# Altium integrated library Cypress PLD Ultra37000.IntLib: 166 symbols (part 10 of 12)
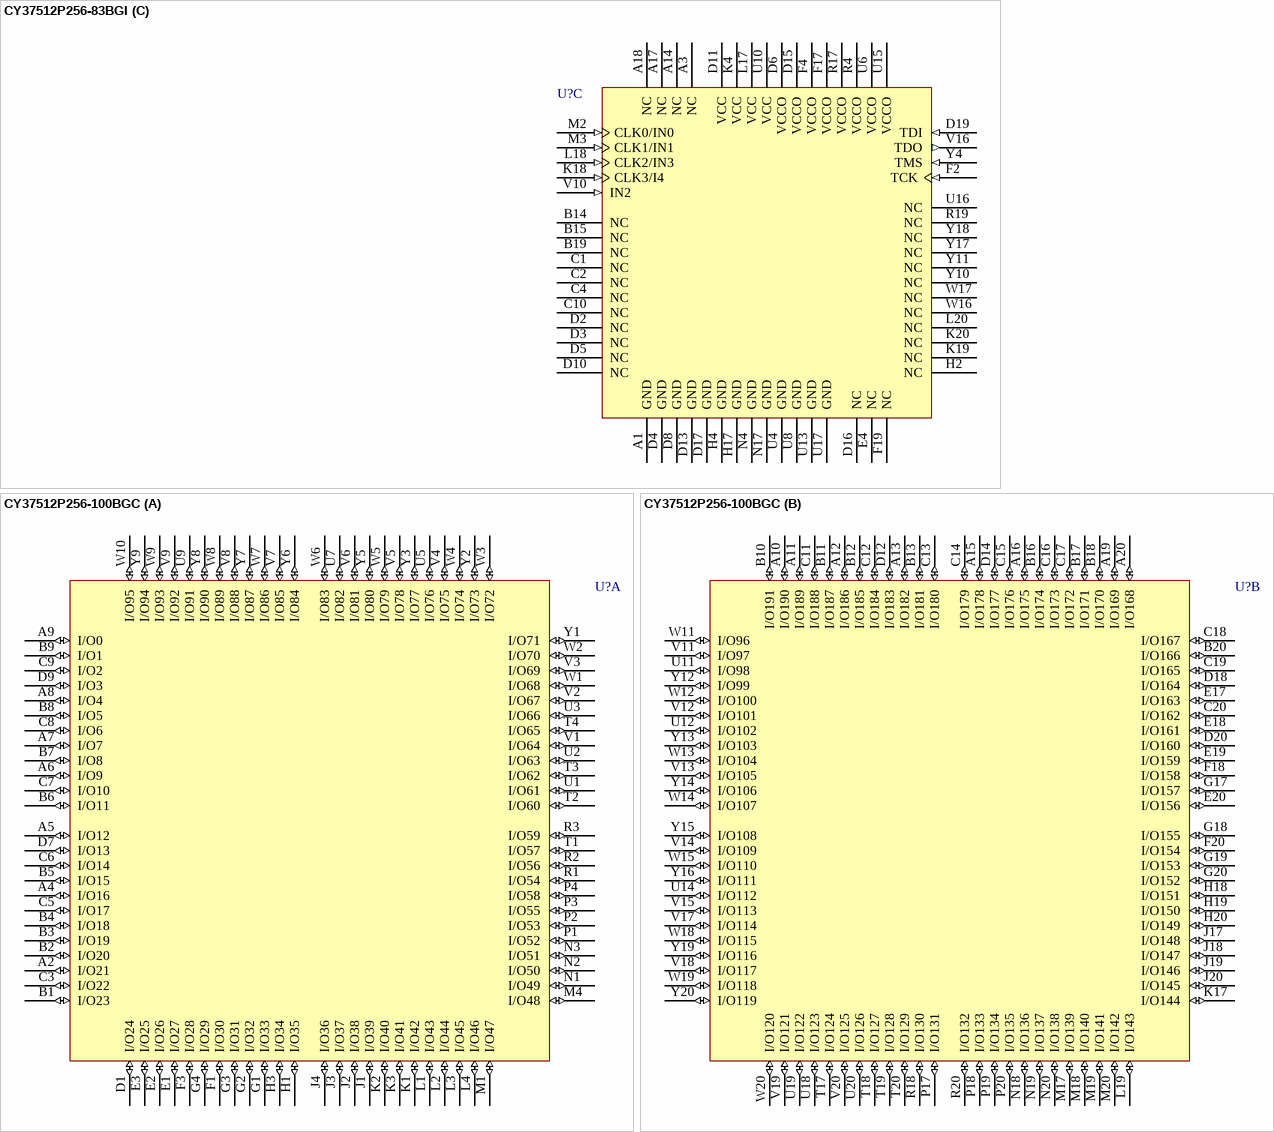
[diagram p99: symbols CY37512P256-83BGI to CY37512P256-100BGC]

## CY37512P256-83BGI
designator U?
Ultra37000 5V, ISR High-Performance CPLD; Published: 11-Dec-2002; LatestRevisionDate: 13-Apr-2006; LatestRevisionNote: IPC-7351 Footprint Added.; DatasheetVersion: 18-Apr-2001; PackageVersion: Mar-2001; PackageReference: BG256; Publisher: Altium Limited; PackageDescription: 292-Ball Ball Grid Array 1.27 mm Pitch; ComponentLink1Description: Manufacturer Link; ComponentLink1URL: http://www.cypress.com/; ComponentLink2Description: Datasheet; ComponentLink2URL: http://www.cypress.com/portal/server.pt/gateway/PTARGS_0_2_1524_209_259_43/http%3B/sjapp20.mis.cypress.com%3B7001/publishedcontent/publish/design_resources/datasheets/contents/cy37032p_5.pdf
footprint BG256 (BGA, 292-Leads, Body 27x27mm, Pitch 1.27mm)
3D model CY37512P256-BG256 (292-Ball Ball Grid Array 1.27 mm Pitch)
part A pins: A2 I/O21 (io), A4 I/O16 (io), A5 I/O12 (io), A6 I/O9 (io), A7 I/O7 (io), A8 I/O4 (io), A9 I/O0 (io), B1 I/O23 (io), B2 I/O20 (io), B3 I/O19 (io), B4 I/O18 (io), B5 I/O15 (io), B6 I/O11 (io), B7 I/O8 (io), B8 I/O5 (io), B9 I/O1 (io), C3 I/O22 (io), C5 I/O17 (io), C6 I/O14 (io), C7 I/O10 (io), C8 I/O6 (io), C9 I/O2 (io), D1 I/O24 (io), D7 I/O13 (io), D9 I/O3 (io), E1 I/O27 (io), E2 I/O26 (io), E3 I/O25 (io), F1 I/O30 (io), F3 I/O28 (io), G1 I/O33 (io), G2 I/O32 (io), G3 I/O31 (io), G4 I/O29 (io), H1 I/O35 (io), H3 I/O34 (io), J1 I/O39 (io), J2 I/O38 (io), J3 I/O37 (io), J4 I/O36 (io), K1 I/O42 (io), K2 I/O40 (io), K3 I/O41 (io), L1 I/O43 (io), L2 I/O44 (io), L3 I/O45 (io), L4 I/O46 (io), M1 I/O47 (io), M4 I/O48 (io), N1 I/O49 (io), N2 I/O50 (io), N3 I/O51 (io), P1 I/O52 (io), P2 I/O53 (io), P3 I/O55 (io), P4 I/O58 (io), R1 I/O54 (io), R2 I/O56 (io), R3 I/O59 (io), T1 I/O57 (io), T2 I/O60 (io), T3 I/O62 (io), T4 I/O65 (io), U1 I/O61 (io), U2 I/O63 (io), U3 I/O66 (io), U5 I/O76 (io), U7 I/O82 (io), U9 I/O91 (io), V1 I/O64 (io), V2 I/O67 (io), V3 I/O69 (io), V4 I/O75 (io), V5 I/O78 (io), V6 I/O81 (io), V7 I/O85 (io), V8 I/O88 (io), V9 I/O92 (io), W1 I/O68 (io), W2 I/O70 (io), W3 I/O72 (io), W4 I/O74 (io), W5 I/O79 (io), W6 I/O83 (io), W7 I/O86 (io), W8 I/O89 (io), W9 I/O93 (io), W10 I/O95 (io), Y1 I/O71 (io), Y2 I/O73 (io), Y3 I/O77 (io), Y5 I/O80 (io), Y6 I/O84 (io), Y7 I/O87 (io), Y8 I/O90 (io), Y9 I/O94 (io)
part B pins: A10 I/O190 (io), A11 I/O189 (io), A12 I/O186 (io), A13 I/O182 (io), A15 I/O178 (io), A16 I/O175 (io), A19 I/O169 (io), A20 I/O168 (io), B10 I/O191 (io), B11 I/O187 (io), B12 I/O185 (io), B13 I/O181 (io), B16 I/O174 (io), B17 I/O171 (io), B18 I/O170 (io), B20 I/O166 (io), C11 I/O188 (io), C12 I/O184 (io), C13 I/O180 (io), C14 I/O179 (io), C15 I/O176 (io), C16 I/O173 (io), C17 I/O172 (io), C18 I/O167 (io), C19 I/O165 (io), C20 I/O162 (io), D12 I/O183 (io), D14 I/O177 (io), D18 I/O164 (io), D20 I/O160 (io), E17 I/O163 (io), E18 I/O161 (io), E19 I/O159 (io), E20 I/O156 (io), F18 I/O158 (io), F20 I/O154 (io), G17 I/O157 (io), G18 I/O155 (io), G19 I/O153 (io), G20 I/O152 (io), H18 I/O151 (io), H19 I/O150 (io), H20 I/O149 (io), J17 I/O148 (io), J18 I/O147 (io), J19 I/O146 (io), J20 I/O145 (io), K17 I/O144 (io), L19 I/O143 (io), M17 I/O139 (io), M18 I/O140 (io), M19 I/O141 (io), M20 I/O142 (io), N18 I/O136 (io), N19 I/O137 (io), N20 I/O138 (io), P17 I/O131 (io), P18 I/O133 (io), P19 I/O134 (io), P20 I/O135 (io), R18 I/O130 (io), R20 I/O132 (io), T17 I/O124 (io), T18 I/O127 (io), T19 I/O128 (io), T20 I/O129 (io), U11 I/O98 (io), U12 I/O102 (io), U14 I/O112 (io), U18 I/O123 (io), U19 I/O122 (io), U20 I/O126 (io), V11 I/O97 (io), V12 I/O101 (io), V13 I/O105 (io), V14 I/O109 (io), V15 I/O113 (io), V17 I/O114 (io), V18 I/O117 (io), V19 I/O121 (io), V20 I/O125 (io), W11 I/O96 (io), W12 I/O100 (io), W13 I/O104 (io), W14 I/O107 (io), W15 I/O110 (io), W18 I/O115 (io), W19 I/O118 (io), W20 I/O120 (io), Y12 I/O99 (io), Y13 I/O103 (io), Y14 I/O106 (io), Y15 I/O108 (io), Y16 I/O111 (io), Y19 I/O116 (io), Y20 I/O119 (io)
part C pins: A1 GND (power), A3 NC, A14 NC, A17 NC, A18 NC, B14 NC, B15 NC, B19 NC, C1 NC, C2 NC, C4 NC, C10 NC, D2 NC, D3 NC, D4 GND (power), D5 NC, D6 VCCO (power), D8 GND (power), D10 NC, D11 VCC (power), D13 GND (power), D15 VCCO (power), D16 NC, D17 GND (power), D19 TDI (in), E4 NC, F2 TCK (in), F4 VCCO (power), F17 VCCO (power), F19 NC, H2 NC, H4 GND (power), H17 GND (power), K4 VCC (power), K18 CLK3/I4 (in), K19 NC, K20 NC, L17 VCC (power), L18 CLK2/IN3 (in), L20 NC, M2 CLK0/IN0 (in), M3 CLK1/IN1 (in), N4 GND (power), N17 GND (power), R4 VCCO (power), R17 VCCO (power), R19 NC, U4 GND (power), U6 VCCO (power), U8 GND (power), U10 VCC (power), U13 GND (power), U15 VCCO (power), U16 NC, U17 GND (power), V10 IN2 (in), V16 TDO (out), W16 NC, W17 NC, Y4 TMS (in), Y10 NC, Y11 NC, Y17 NC, Y18 NC

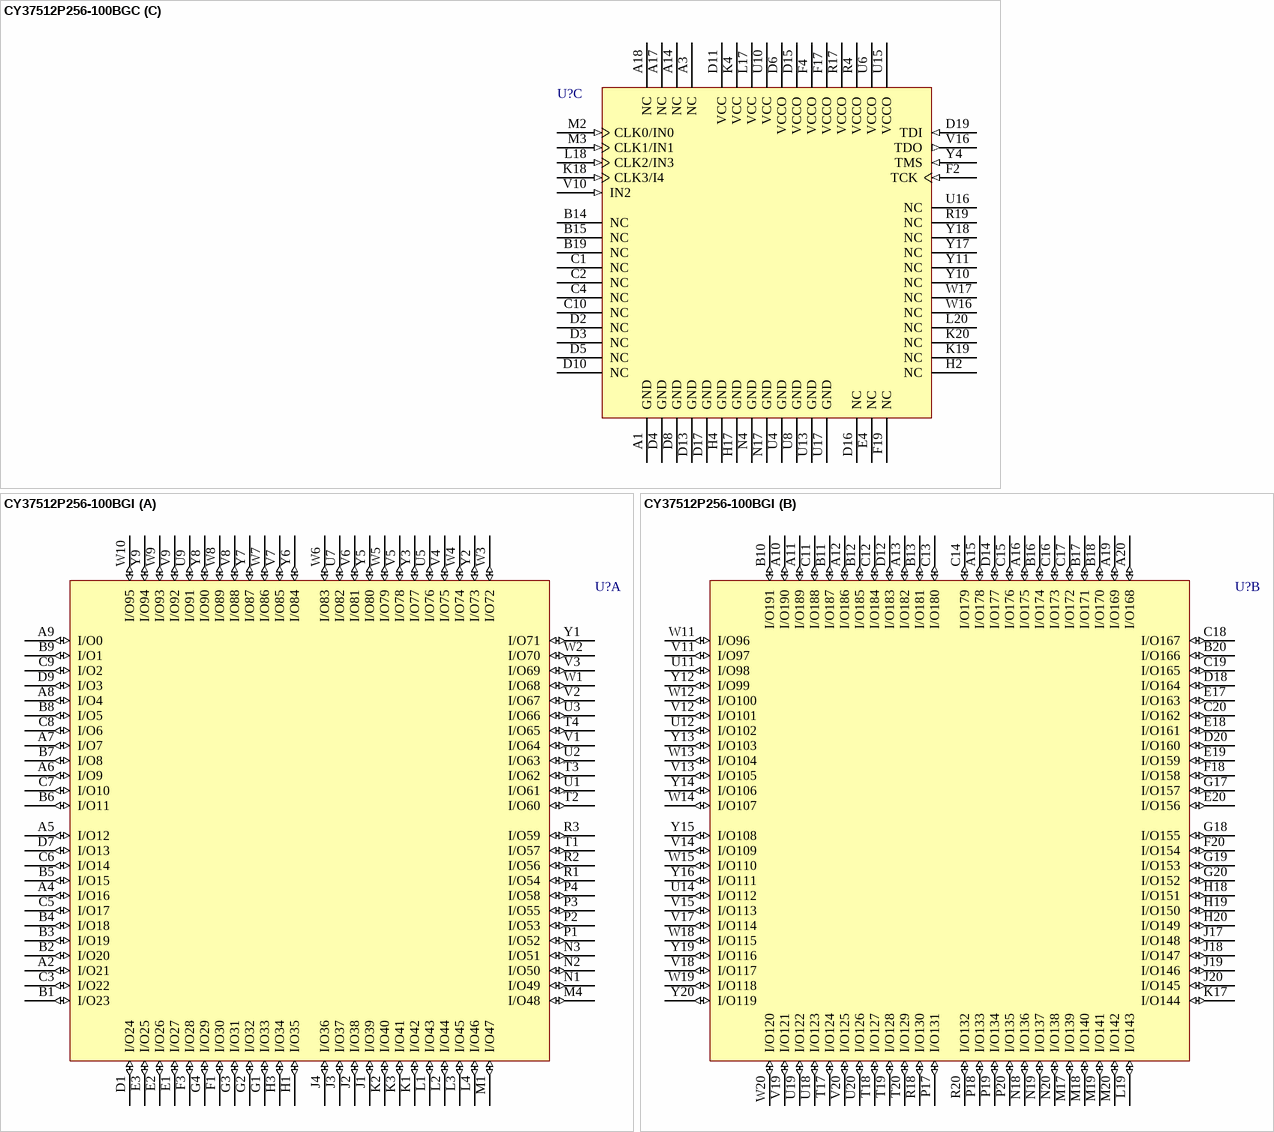
[diagram p62: symbols CY37512P256-100BGC to CY37512P256-100BGI]

## CY37512P256-100BGC
designator U?
Ultra37000 5V, ISR High-Performance CPLD; Published: 11-Dec-2002; LatestRevisionDate: 13-Apr-2006; LatestRevisionNote: IPC-7351 Footprint Added.; DatasheetVersion: 18-Apr-2001; PackageVersion: Mar-2001; PackageReference: BG256; Publisher: Altium Limited; PackageDescription: 292-Ball Ball Grid Array 1.27 mm Pitch; ComponentLink1Description: Manufacturer Link; ComponentLink1URL: http://www.cypress.com/; ComponentLink2Description: Datasheet; ComponentLink2URL: http://www.cypress.com/portal/server.pt/gateway/PTARGS_0_2_1524_209_259_43/http%3B/sjapp20.mis.cypress.com%3B7001/publishedcontent/publish/design_resources/datasheets/contents/cy37032p_5.pdf
footprint BG256 (BGA, 292-Leads, Body 27x27mm, Pitch 1.27mm)
3D model CY37512P256-BG256 (292-Ball Ball Grid Array 1.27 mm Pitch)
part A pins: A2 I/O21 (io), A4 I/O16 (io), A5 I/O12 (io), A6 I/O9 (io), A7 I/O7 (io), A8 I/O4 (io), A9 I/O0 (io), B1 I/O23 (io), B2 I/O20 (io), B3 I/O19 (io), B4 I/O18 (io), B5 I/O15 (io), B6 I/O11 (io), B7 I/O8 (io), B8 I/O5 (io), B9 I/O1 (io), C3 I/O22 (io), C5 I/O17 (io), C6 I/O14 (io), C7 I/O10 (io), C8 I/O6 (io), C9 I/O2 (io), D1 I/O24 (io), D7 I/O13 (io), D9 I/O3 (io), E1 I/O27 (io), E2 I/O26 (io), E3 I/O25 (io), F1 I/O30 (io), F3 I/O28 (io), G1 I/O33 (io), G2 I/O32 (io), G3 I/O31 (io), G4 I/O29 (io), H1 I/O35 (io), H3 I/O34 (io), J1 I/O39 (io), J2 I/O38 (io), J3 I/O37 (io), J4 I/O36 (io), K1 I/O42 (io), K2 I/O40 (io), K3 I/O41 (io), L1 I/O43 (io), L2 I/O44 (io), L3 I/O45 (io), L4 I/O46 (io), M1 I/O47 (io), M4 I/O48 (io), N1 I/O49 (io), N2 I/O50 (io), N3 I/O51 (io), P1 I/O52 (io), P2 I/O53 (io), P3 I/O55 (io), P4 I/O58 (io), R1 I/O54 (io), R2 I/O56 (io), R3 I/O59 (io), T1 I/O57 (io), T2 I/O60 (io), T3 I/O62 (io), T4 I/O65 (io), U1 I/O61 (io), U2 I/O63 (io), U3 I/O66 (io), U5 I/O76 (io), U7 I/O82 (io), U9 I/O91 (io), V1 I/O64 (io), V2 I/O67 (io), V3 I/O69 (io), V4 I/O75 (io), V5 I/O78 (io), V6 I/O81 (io), V7 I/O85 (io), V8 I/O88 (io), V9 I/O92 (io), W1 I/O68 (io), W2 I/O70 (io), W3 I/O72 (io), W4 I/O74 (io), W5 I/O79 (io), W6 I/O83 (io), W7 I/O86 (io), W8 I/O89 (io), W9 I/O93 (io), W10 I/O95 (io), Y1 I/O71 (io), Y2 I/O73 (io), Y3 I/O77 (io), Y5 I/O80 (io), Y6 I/O84 (io), Y7 I/O87 (io), Y8 I/O90 (io), Y9 I/O94 (io)
part B pins: A10 I/O190 (io), A11 I/O189 (io), A12 I/O186 (io), A13 I/O182 (io), A15 I/O178 (io), A16 I/O175 (io), A19 I/O169 (io), A20 I/O168 (io), B10 I/O191 (io), B11 I/O187 (io), B12 I/O185 (io), B13 I/O181 (io), B16 I/O174 (io), B17 I/O171 (io), B18 I/O170 (io), B20 I/O166 (io), C11 I/O188 (io), C12 I/O184 (io), C13 I/O180 (io), C14 I/O179 (io), C15 I/O176 (io), C16 I/O173 (io), C17 I/O172 (io), C18 I/O167 (io), C19 I/O165 (io), C20 I/O162 (io), D12 I/O183 (io), D14 I/O177 (io), D18 I/O164 (io), D20 I/O160 (io), E17 I/O163 (io), E18 I/O161 (io), E19 I/O159 (io), E20 I/O156 (io), F18 I/O158 (io), F20 I/O154 (io), G17 I/O157 (io), G18 I/O155 (io), G19 I/O153 (io), G20 I/O152 (io), H18 I/O151 (io), H19 I/O150 (io), H20 I/O149 (io), J17 I/O148 (io), J18 I/O147 (io), J19 I/O146 (io), J20 I/O145 (io), K17 I/O144 (io), L19 I/O143 (io), M17 I/O139 (io), M18 I/O140 (io), M19 I/O141 (io), M20 I/O142 (io), N18 I/O136 (io), N19 I/O137 (io), N20 I/O138 (io), P17 I/O131 (io), P18 I/O133 (io), P19 I/O134 (io), P20 I/O135 (io), R18 I/O130 (io), R20 I/O132 (io), T17 I/O124 (io), T18 I/O127 (io), T19 I/O128 (io), T20 I/O129 (io), U11 I/O98 (io), U12 I/O102 (io), U14 I/O112 (io), U18 I/O123 (io), U19 I/O122 (io), U20 I/O126 (io), V11 I/O97 (io), V12 I/O101 (io), V13 I/O105 (io), V14 I/O109 (io), V15 I/O113 (io), V17 I/O114 (io), V18 I/O117 (io), V19 I/O121 (io), V20 I/O125 (io), W11 I/O96 (io), W12 I/O100 (io), W13 I/O104 (io), W14 I/O107 (io), W15 I/O110 (io), W18 I/O115 (io), W19 I/O118 (io), W20 I/O120 (io), Y12 I/O99 (io), Y13 I/O103 (io), Y14 I/O106 (io), Y15 I/O108 (io), Y16 I/O111 (io), Y19 I/O116 (io), Y20 I/O119 (io)
part C pins: A1 GND (power), A3 NC, A14 NC, A17 NC, A18 NC, B14 NC, B15 NC, B19 NC, C1 NC, C2 NC, C4 NC, C10 NC, D2 NC, D3 NC, D4 GND (power), D5 NC, D6 VCCO (power), D8 GND (power), D10 NC, D11 VCC (power), D13 GND (power), D15 VCCO (power), D16 NC, D17 GND (power), D19 TDI (in), E4 NC, F2 TCK (in), F4 VCCO (power), F17 VCCO (power), F19 NC, H2 NC, H4 GND (power), H17 GND (power), K4 VCC (power), K18 CLK3/I4 (in), K19 NC, K20 NC, L17 VCC (power), L18 CLK2/IN3 (in), L20 NC, M2 CLK0/IN0 (in), M3 CLK1/IN1 (in), N4 GND (power), N17 GND (power), R4 VCCO (power), R17 VCCO (power), R19 NC, U4 GND (power), U6 VCCO (power), U8 GND (power), U10 VCC (power), U13 GND (power), U15 VCCO (power), U16 NC, U17 GND (power), V10 IN2 (in), V16 TDO (out), W16 NC, W17 NC, Y4 TMS (in), Y10 NC, Y11 NC, Y17 NC, Y18 NC

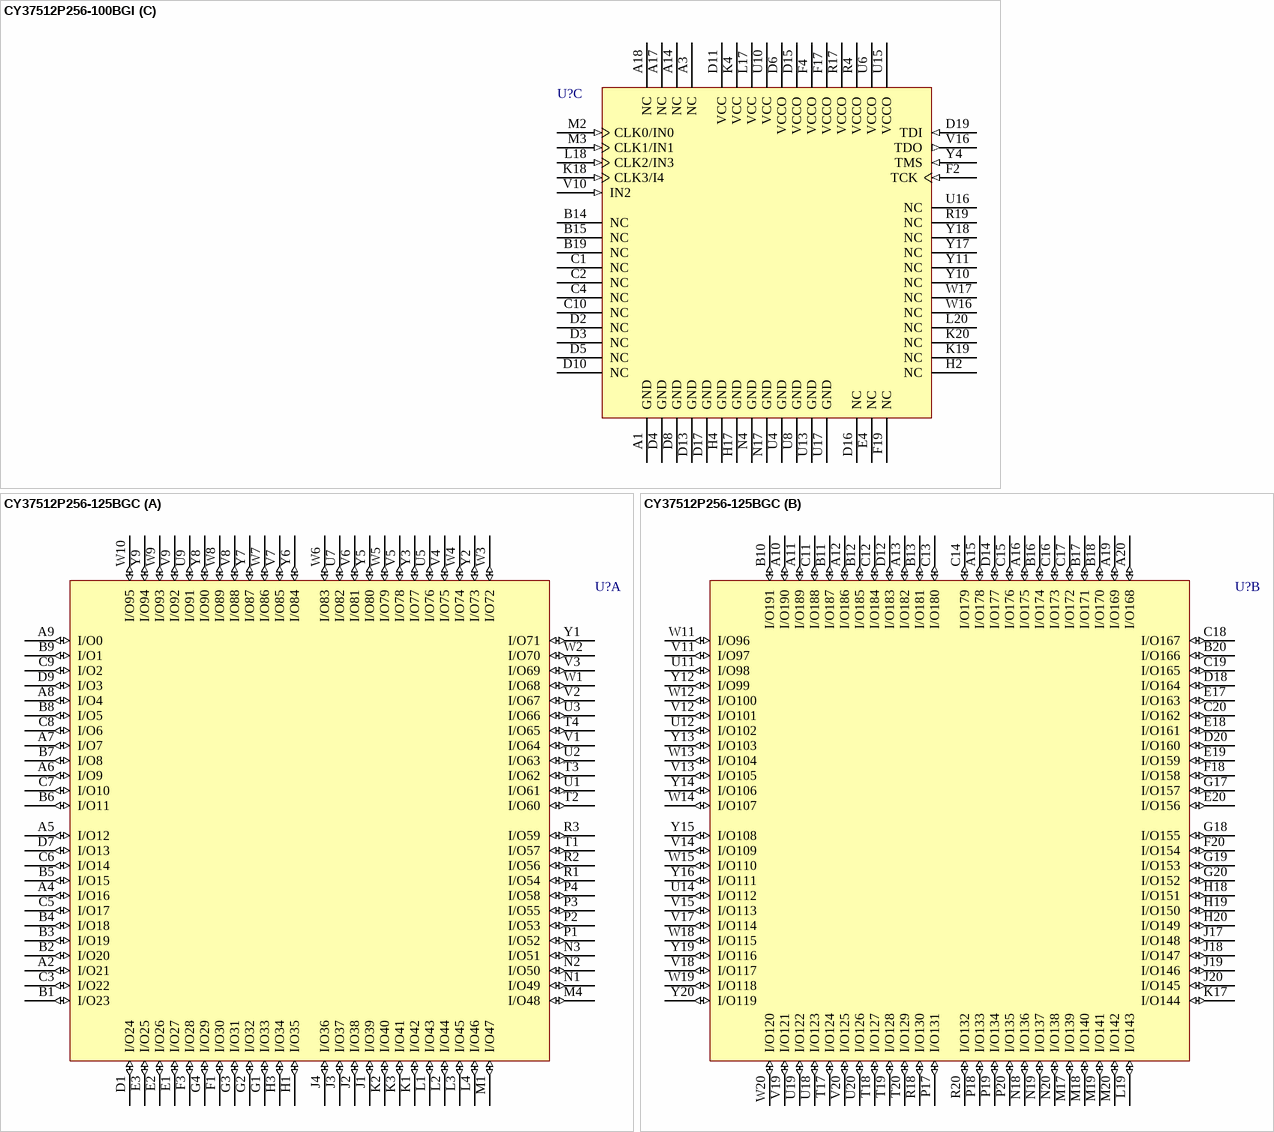
[diagram p63: symbols CY37512P256-100BGI to CY37512P256-125BGC]

## CY37512P256-100BGI
designator U?
Ultra37000 5V, ISR High-Performance CPLD; Published: 11-Dec-2002; LatestRevisionDate: 13-Apr-2006; LatestRevisionNote: IPC-7351 Footprint Added.; DatasheetVersion: 18-Apr-2001; PackageVersion: Mar-2001; PackageReference: BG256; Publisher: Altium Limited; PackageDescription: 292-Ball Ball Grid Array 1.27 mm Pitch; ComponentLink1Description: Manufacturer Link; ComponentLink1URL: http://www.cypress.com/; ComponentLink2Description: Datasheet; ComponentLink2URL: http://www.cypress.com/portal/server.pt/gateway/PTARGS_0_2_1524_209_259_43/http%3B/sjapp20.mis.cypress.com%3B7001/publishedcontent/publish/design_resources/datasheets/contents/cy37032p_5.pdf
footprint BG256 (BGA, 292-Leads, Body 27x27mm, Pitch 1.27mm)
3D model CY37512P256-BG256 (292-Ball Ball Grid Array 1.27 mm Pitch)
part A pins: A2 I/O21 (io), A4 I/O16 (io), A5 I/O12 (io), A6 I/O9 (io), A7 I/O7 (io), A8 I/O4 (io), A9 I/O0 (io), B1 I/O23 (io), B2 I/O20 (io), B3 I/O19 (io), B4 I/O18 (io), B5 I/O15 (io), B6 I/O11 (io), B7 I/O8 (io), B8 I/O5 (io), B9 I/O1 (io), C3 I/O22 (io), C5 I/O17 (io), C6 I/O14 (io), C7 I/O10 (io), C8 I/O6 (io), C9 I/O2 (io), D1 I/O24 (io), D7 I/O13 (io), D9 I/O3 (io), E1 I/O27 (io), E2 I/O26 (io), E3 I/O25 (io), F1 I/O30 (io), F3 I/O28 (io), G1 I/O33 (io), G2 I/O32 (io), G3 I/O31 (io), G4 I/O29 (io), H1 I/O35 (io), H3 I/O34 (io), J1 I/O39 (io), J2 I/O38 (io), J3 I/O37 (io), J4 I/O36 (io), K1 I/O42 (io), K2 I/O40 (io), K3 I/O41 (io), L1 I/O43 (io), L2 I/O44 (io), L3 I/O45 (io), L4 I/O46 (io), M1 I/O47 (io), M4 I/O48 (io), N1 I/O49 (io), N2 I/O50 (io), N3 I/O51 (io), P1 I/O52 (io), P2 I/O53 (io), P3 I/O55 (io), P4 I/O58 (io), R1 I/O54 (io), R2 I/O56 (io), R3 I/O59 (io), T1 I/O57 (io), T2 I/O60 (io), T3 I/O62 (io), T4 I/O65 (io), U1 I/O61 (io), U2 I/O63 (io), U3 I/O66 (io), U5 I/O76 (io), U7 I/O82 (io), U9 I/O91 (io), V1 I/O64 (io), V2 I/O67 (io), V3 I/O69 (io), V4 I/O75 (io), V5 I/O78 (io), V6 I/O81 (io), V7 I/O85 (io), V8 I/O88 (io), V9 I/O92 (io), W1 I/O68 (io), W2 I/O70 (io), W3 I/O72 (io), W4 I/O74 (io), W5 I/O79 (io), W6 I/O83 (io), W7 I/O86 (io), W8 I/O89 (io), W9 I/O93 (io), W10 I/O95 (io), Y1 I/O71 (io), Y2 I/O73 (io), Y3 I/O77 (io), Y5 I/O80 (io), Y6 I/O84 (io), Y7 I/O87 (io), Y8 I/O90 (io), Y9 I/O94 (io)
part B pins: A10 I/O190 (io), A11 I/O189 (io), A12 I/O186 (io), A13 I/O182 (io), A15 I/O178 (io), A16 I/O175 (io), A19 I/O169 (io), A20 I/O168 (io), B10 I/O191 (io), B11 I/O187 (io), B12 I/O185 (io), B13 I/O181 (io), B16 I/O174 (io), B17 I/O171 (io), B18 I/O170 (io), B20 I/O166 (io), C11 I/O188 (io), C12 I/O184 (io), C13 I/O180 (io), C14 I/O179 (io), C15 I/O176 (io), C16 I/O173 (io), C17 I/O172 (io), C18 I/O167 (io), C19 I/O165 (io), C20 I/O162 (io), D12 I/O183 (io), D14 I/O177 (io), D18 I/O164 (io), D20 I/O160 (io), E17 I/O163 (io), E18 I/O161 (io), E19 I/O159 (io), E20 I/O156 (io), F18 I/O158 (io), F20 I/O154 (io), G17 I/O157 (io), G18 I/O155 (io), G19 I/O153 (io), G20 I/O152 (io), H18 I/O151 (io), H19 I/O150 (io), H20 I/O149 (io), J17 I/O148 (io), J18 I/O147 (io), J19 I/O146 (io), J20 I/O145 (io), K17 I/O144 (io), L19 I/O143 (io), M17 I/O139 (io), M18 I/O140 (io), M19 I/O141 (io), M20 I/O142 (io), N18 I/O136 (io), N19 I/O137 (io), N20 I/O138 (io), P17 I/O131 (io), P18 I/O133 (io), P19 I/O134 (io), P20 I/O135 (io), R18 I/O130 (io), R20 I/O132 (io), T17 I/O124 (io), T18 I/O127 (io), T19 I/O128 (io), T20 I/O129 (io), U11 I/O98 (io), U12 I/O102 (io), U14 I/O112 (io), U18 I/O123 (io), U19 I/O122 (io), U20 I/O126 (io), V11 I/O97 (io), V12 I/O101 (io), V13 I/O105 (io), V14 I/O109 (io), V15 I/O113 (io), V17 I/O114 (io), V18 I/O117 (io), V19 I/O121 (io), V20 I/O125 (io), W11 I/O96 (io), W12 I/O100 (io), W13 I/O104 (io), W14 I/O107 (io), W15 I/O110 (io), W18 I/O115 (io), W19 I/O118 (io), W20 I/O120 (io), Y12 I/O99 (io), Y13 I/O103 (io), Y14 I/O106 (io), Y15 I/O108 (io), Y16 I/O111 (io), Y19 I/O116 (io), Y20 I/O119 (io)
part C pins: A1 GND (power), A3 NC, A14 NC, A17 NC, A18 NC, B14 NC, B15 NC, B19 NC, C1 NC, C2 NC, C4 NC, C10 NC, D2 NC, D3 NC, D4 GND (power), D5 NC, D6 VCCO (power), D8 GND (power), D10 NC, D11 VCC (power), D13 GND (power), D15 VCCO (power), D16 NC, D17 GND (power), D19 TDI (in), E4 NC, F2 TCK (in), F4 VCCO (power), F17 VCCO (power), F19 NC, H2 NC, H4 GND (power), H17 GND (power), K4 VCC (power), K18 CLK3/I4 (in), K19 NC, K20 NC, L17 VCC (power), L18 CLK2/IN3 (in), L20 NC, M2 CLK0/IN0 (in), M3 CLK1/IN1 (in), N4 GND (power), N17 GND (power), R4 VCCO (power), R17 VCCO (power), R19 NC, U4 GND (power), U6 VCCO (power), U8 GND (power), U10 VCC (power), U13 GND (power), U15 VCCO (power), U16 NC, U17 GND (power), V10 IN2 (in), V16 TDO (out), W16 NC, W17 NC, Y4 TMS (in), Y10 NC, Y11 NC, Y17 NC, Y18 NC

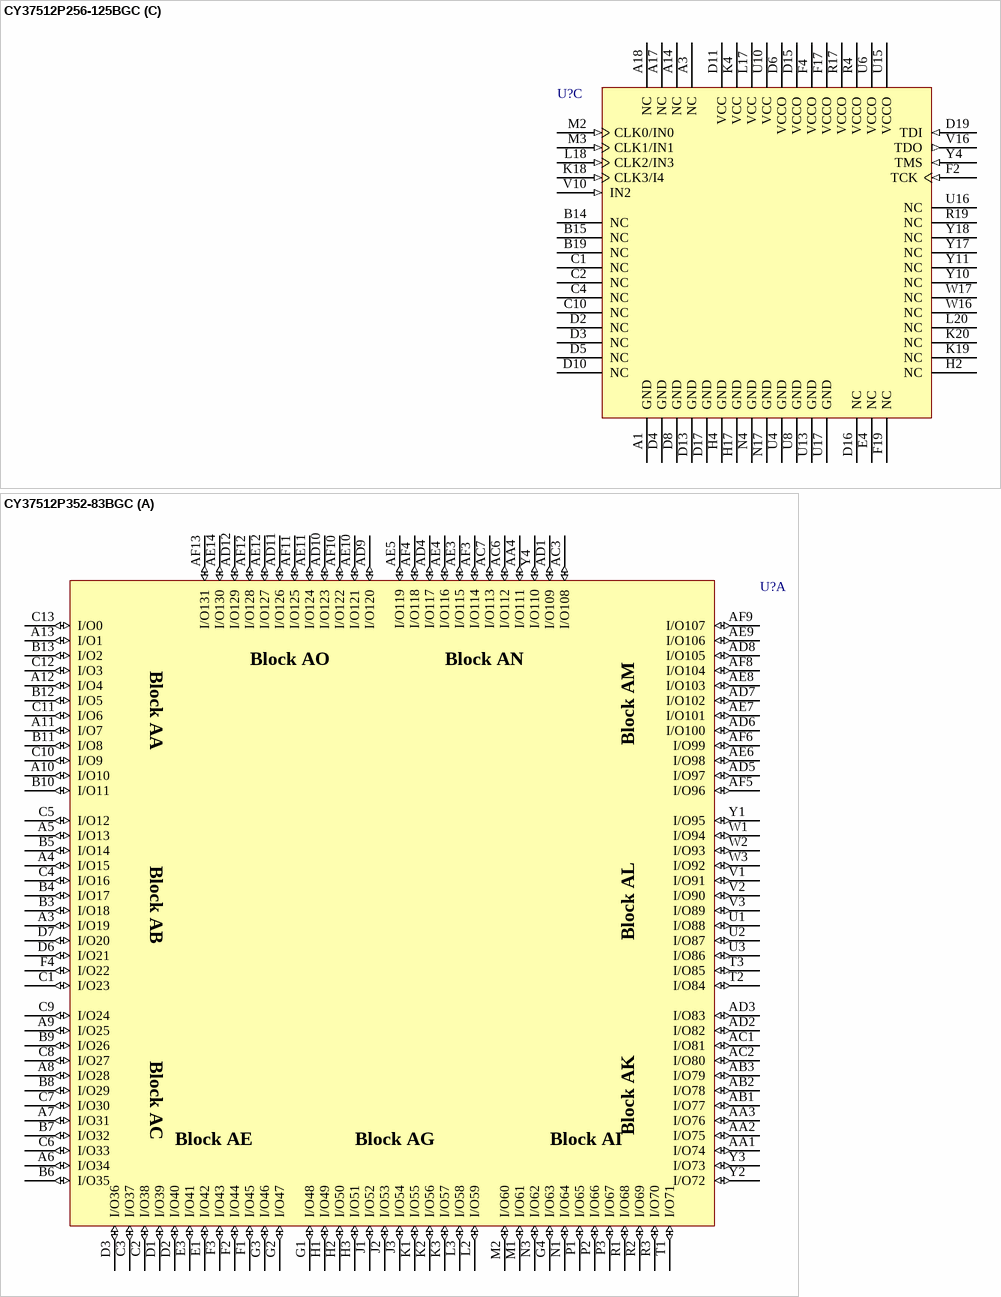
[diagram p64: symbols CY37512P256-125BGC to CY37512P352-83BGC]

## CY37512P256-125BGC
designator U?
Ultra37000 5V, ISR High-Performance CPLD; Published: 11-Dec-2002; LatestRevisionDate: 13-Apr-2006; LatestRevisionNote: IPC-7351 Footprint Added.; DatasheetVersion: 18-Apr-2001; PackageVersion: Mar-2001; PackageReference: BG256; Publisher: Altium Limited; PackageDescription: 292-Ball Ball Grid Array 1.27 mm Pitch; ComponentLink1Description: Manufacturer Link; ComponentLink1URL: http://www.cypress.com/; ComponentLink2Description: Datasheet; ComponentLink2URL: http://www.cypress.com/portal/server.pt/gateway/PTARGS_0_2_1524_209_259_43/http%3B/sjapp20.mis.cypress.com%3B7001/publishedcontent/publish/design_resources/datasheets/contents/cy37032p_5.pdf
footprint BG256 (BGA, 292-Leads, Body 27x27mm, Pitch 1.27mm)
3D model CY37512P256-BG256 (292-Ball Ball Grid Array 1.27 mm Pitch)
part A pins: A2 I/O21 (io), A4 I/O16 (io), A5 I/O12 (io), A6 I/O9 (io), A7 I/O7 (io), A8 I/O4 (io), A9 I/O0 (io), B1 I/O23 (io), B2 I/O20 (io), B3 I/O19 (io), B4 I/O18 (io), B5 I/O15 (io), B6 I/O11 (io), B7 I/O8 (io), B8 I/O5 (io), B9 I/O1 (io), C3 I/O22 (io), C5 I/O17 (io), C6 I/O14 (io), C7 I/O10 (io), C8 I/O6 (io), C9 I/O2 (io), D1 I/O24 (io), D7 I/O13 (io), D9 I/O3 (io), E1 I/O27 (io), E2 I/O26 (io), E3 I/O25 (io), F1 I/O30 (io), F3 I/O28 (io), G1 I/O33 (io), G2 I/O32 (io), G3 I/O31 (io), G4 I/O29 (io), H1 I/O35 (io), H3 I/O34 (io), J1 I/O39 (io), J2 I/O38 (io), J3 I/O37 (io), J4 I/O36 (io), K1 I/O42 (io), K2 I/O40 (io), K3 I/O41 (io), L1 I/O43 (io), L2 I/O44 (io), L3 I/O45 (io), L4 I/O46 (io), M1 I/O47 (io), M4 I/O48 (io), N1 I/O49 (io), N2 I/O50 (io), N3 I/O51 (io), P1 I/O52 (io), P2 I/O53 (io), P3 I/O55 (io), P4 I/O58 (io), R1 I/O54 (io), R2 I/O56 (io), R3 I/O59 (io), T1 I/O57 (io), T2 I/O60 (io), T3 I/O62 (io), T4 I/O65 (io), U1 I/O61 (io), U2 I/O63 (io), U3 I/O66 (io), U5 I/O76 (io), U7 I/O82 (io), U9 I/O91 (io), V1 I/O64 (io), V2 I/O67 (io), V3 I/O69 (io), V4 I/O75 (io), V5 I/O78 (io), V6 I/O81 (io), V7 I/O85 (io), V8 I/O88 (io), V9 I/O92 (io), W1 I/O68 (io), W2 I/O70 (io), W3 I/O72 (io), W4 I/O74 (io), W5 I/O79 (io), W6 I/O83 (io), W7 I/O86 (io), W8 I/O89 (io), W9 I/O93 (io), W10 I/O95 (io), Y1 I/O71 (io), Y2 I/O73 (io), Y3 I/O77 (io), Y5 I/O80 (io), Y6 I/O84 (io), Y7 I/O87 (io), Y8 I/O90 (io), Y9 I/O94 (io)
part B pins: A10 I/O190 (io), A11 I/O189 (io), A12 I/O186 (io), A13 I/O182 (io), A15 I/O178 (io), A16 I/O175 (io), A19 I/O169 (io), A20 I/O168 (io), B10 I/O191 (io), B11 I/O187 (io), B12 I/O185 (io), B13 I/O181 (io), B16 I/O174 (io), B17 I/O171 (io), B18 I/O170 (io), B20 I/O166 (io), C11 I/O188 (io), C12 I/O184 (io), C13 I/O180 (io), C14 I/O179 (io), C15 I/O176 (io), C16 I/O173 (io), C17 I/O172 (io), C18 I/O167 (io), C19 I/O165 (io), C20 I/O162 (io), D12 I/O183 (io), D14 I/O177 (io), D18 I/O164 (io), D20 I/O160 (io), E17 I/O163 (io), E18 I/O161 (io), E19 I/O159 (io), E20 I/O156 (io), F18 I/O158 (io), F20 I/O154 (io), G17 I/O157 (io), G18 I/O155 (io), G19 I/O153 (io), G20 I/O152 (io), H18 I/O151 (io), H19 I/O150 (io), H20 I/O149 (io), J17 I/O148 (io), J18 I/O147 (io), J19 I/O146 (io), J20 I/O145 (io), K17 I/O144 (io), L19 I/O143 (io), M17 I/O139 (io), M18 I/O140 (io), M19 I/O141 (io), M20 I/O142 (io), N18 I/O136 (io), N19 I/O137 (io), N20 I/O138 (io), P17 I/O131 (io), P18 I/O133 (io), P19 I/O134 (io), P20 I/O135 (io), R18 I/O130 (io), R20 I/O132 (io), T17 I/O124 (io), T18 I/O127 (io), T19 I/O128 (io), T20 I/O129 (io), U11 I/O98 (io), U12 I/O102 (io), U14 I/O112 (io), U18 I/O123 (io), U19 I/O122 (io), U20 I/O126 (io), V11 I/O97 (io), V12 I/O101 (io), V13 I/O105 (io), V14 I/O109 (io), V15 I/O113 (io), V17 I/O114 (io), V18 I/O117 (io), V19 I/O121 (io), V20 I/O125 (io), W11 I/O96 (io), W12 I/O100 (io), W13 I/O104 (io), W14 I/O107 (io), W15 I/O110 (io), W18 I/O115 (io), W19 I/O118 (io), W20 I/O120 (io), Y12 I/O99 (io), Y13 I/O103 (io), Y14 I/O106 (io), Y15 I/O108 (io), Y16 I/O111 (io), Y19 I/O116 (io), Y20 I/O119 (io)
part C pins: A1 GND (power), A3 NC, A14 NC, A17 NC, A18 NC, B14 NC, B15 NC, B19 NC, C1 NC, C2 NC, C4 NC, C10 NC, D2 NC, D3 NC, D4 GND (power), D5 NC, D6 VCCO (power), D8 GND (power), D10 NC, D11 VCC (power), D13 GND (power), D15 VCCO (power), D16 NC, D17 GND (power), D19 TDI (in), E4 NC, F2 TCK (in), F4 VCCO (power), F17 VCCO (power), F19 NC, H2 NC, H4 GND (power), H17 GND (power), K4 VCC (power), K18 CLK3/I4 (in), K19 NC, K20 NC, L17 VCC (power), L18 CLK2/IN3 (in), L20 NC, M2 CLK0/IN0 (in), M3 CLK1/IN1 (in), N4 GND (power), N17 GND (power), R4 VCCO (power), R17 VCCO (power), R19 NC, U4 GND (power), U6 VCCO (power), U8 GND (power), U10 VCC (power), U13 GND (power), U15 VCCO (power), U16 NC, U17 GND (power), V10 IN2 (in), V16 TDO (out), W16 NC, W17 NC, Y4 TMS (in), Y10 NC, Y11 NC, Y17 NC, Y18 NC

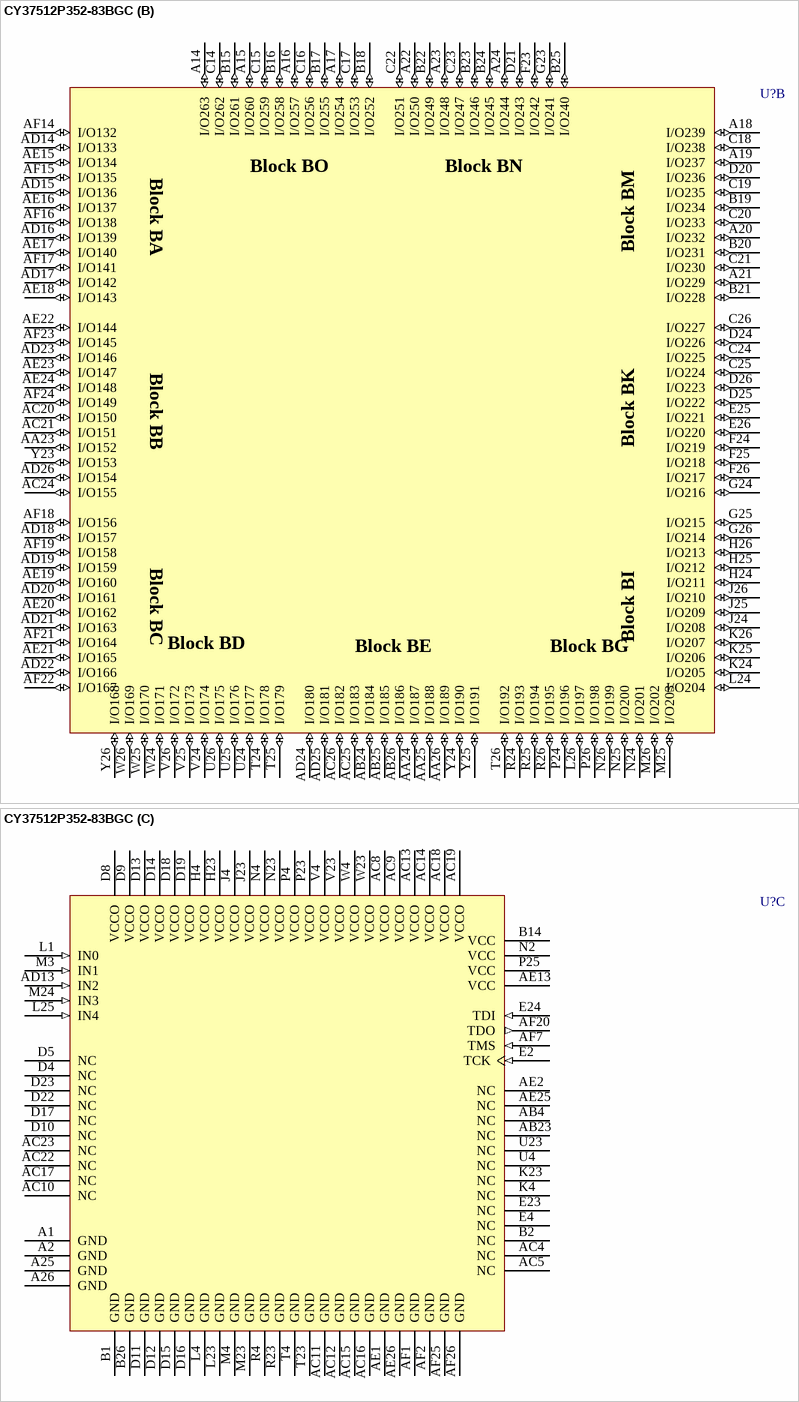
[diagram p65: symbol CY37512P352-83BGC]

## CY37512P352-83BGC
designator U?
Ultra37000 5V, ISR High-Performance CPLD; Published: 11-Dec-2002; LatestRevisionDate: 13-Apr-2006; LatestRevisionNote: IPC-7351 Footprint Added.; DatasheetVersion: 18-Apr-2001; PackageVersion: Mar-2001; PackageReference: BG352; Publisher: Altium Limited; PackageDescription: 388-Ball Ball Grid Array 1.27 mm Pitch; ComponentLink1Description: Manufacturer Link; ComponentLink1URL: http://www.cypress.com/; ComponentLink2Description: Datasheet; ComponentLink2URL: http://www.cypress.com/portal/server.pt/gateway/PTARGS_0_2_1524_209_259_43/http%3B/sjapp20.mis.cypress.com%3B7001/publishedcontent/publish/design_resources/datasheets/contents/cy37032p_5.pdf
footprint BG352 (BGA, 388-Leads, Body 35x35mm, Pitch 1.27mm)
3D model CY37512P352-BG352 (388-Ball Ball Grid Array 1.27 mm Pitch)
part A pins: A3 I/O19 (io), A4 I/O15 (io), A5 I/O13 (io), A6 I/O34 (io), A7 I/O31 (io), A8 I/O28 (io), A9 I/O25 (io), A10 I/O10 (io), A11 I/O7 (io), A12 I/O4 (io), A13 I/O1 (io), AA1 I/O74 (io), AA2 I/O75 (io), AA3 I/O76 (io), AA4 I/O111 (io), AB1 I/O77 (io), AB2 I/O78 (io), AB3 I/O79 (io), AC1 I/O81 (io), AC2 I/O80 (io), AC3 I/O108 (io), AC6 I/O112 (io), AC7 I/O113 (io), AD1 I/O109 (io), AD2 I/O82 (io), AD3 I/O83 (io), AD4 I/O117 (io), AD5 I/O97 (io), AD6 I/O100 (io), AD7 I/O102 (io), AD8 I/O105 (io), AD9 I/O120 (io), AD10 I/O123 (io), AD11 I/O126 (io), AD12 I/O129 (io), AE3 I/O115 (io), AE4 I/O116 (io), AE5 I/O119 (io), AE6 I/O98 (io), AE7 I/O101 (io), AE8 I/O103 (io), AE9 I/O106 (io), AE10 I/O121 (io), AE11 I/O124 (io), AE12 I/O127 (io), AE14 I/O130 (io), AF3 I/O114 (io), AF4 I/O118 (io), AF5 I/O96 (io), AF6 I/O99 (io), AF8 I/O104 (io), AF9 I/O107 (io), AF10 I/O122 (io), AF11 I/O125 (io), AF12 I/O128 (io), AF13 I/O131 (io), B3 I/O18 (io), B4 I/O17 (io), B5 I/O14 (io), B6 I/O35 (io), B7 I/O32 (io), B8 I/O29 (io), B9 I/O26 (io), B10 I/O11 (io), B11 I/O8 (io), B12 I/O5 (io), B13 I/O2 (io), C1 I/O23 (io), C2 I/O38 (io), C3 I/O37 (io), C4 I/O16 (io), C5 I/O12 (io), C6 I/O33 (io), C7 I/O30 (io), C8 I/O27 (io), C9 I/O24 (io), C10 I/O9 (io), C11 I/O6 (io), C12 I/O3 (io), C13 I/O0 (io), D1 I/O39 (io), D2 I/O40 (io), D3 I/O36 (io), D6 I/O21 (io), D7 I/O20 (io), E1 I/O42 (io), E3 I/O41 (io), F1 I/O45 (io), F2 I/O44 (io), F3 I/O43 (io), F4 I/O22 (io), G1 I/O48 (io), G2 I/O47 (io), G3 I/O46 (io), G4 I/O63 (io), H1 I/O49 (io), H2 I/O50 (io), H3 I/O51 (io), J1 I/O52 (io), J2 I/O53 (io), J3 I/O54 (io), K1 I/O55 (io), K2 I/O56 (io), K3 I/O57 (io), L2 I/O59 (io), L3 I/O58 (io), M1 I/O61 (io), M2 I/O60 (io), N1 I/O64 (io), N3 I/O62 (io), P1 I/O65 (io), P2 I/O66 (io), P3 I/O67 (io), R1 I/O68 (io), R2 I/O69 (io), R3 I/O70 (io), T1 I/O71 (io), T2 I/O84 (io), T3 I/O85 (io), U1 I/O88 (io), U2 I/O87 (io), U3 I/O86 (io), V1 I/O91 (io), V2 I/O90 (io), V3 I/O89 (io), W1 I/O94 (io), W2 I/O93 (io), W3 I/O92 (io), Y1 I/O95 (io), Y2 I/O72 (io), Y3 I/O73 (io), Y4 I/O110 (io)
part B pins: A14 I/O263 (io), A15 I/O260 (io), A16 I/O257 (io), A17 I/O254 (io), A18 I/O239 (io), A19 I/O237 (io), A20 I/O232 (io), A21 I/O229 (io), A22 I/O250 (io), A23 I/O248 (io), A24 I/O244 (io), AA23 I/O152 (io), AA24 I/O187 (io), AA25 I/O188 (io), AA26 I/O189 (io), AB24 I/O184 (io), AB25 I/O185 (io), AB26 I/O186 (io), AC20 I/O150 (io), AC21 I/O151 (io), AC24 I/O155 (io), AC25 I/O183 (io), AC26 I/O182 (io), AD14 I/O133 (io), AD15 I/O136 (io), AD16 I/O139 (io), AD17 I/O142 (io), AD18 I/O157 (io), AD19 I/O159 (io), AD20 I/O161 (io), AD21 I/O163 (io), AD22 I/O166 (io), AD23 I/O146 (io), AD24 I/O180 (io), AD25 I/O181 (io), AD26 I/O154 (io), AE15 I/O134 (io), AE16 I/O137 (io), AE17 I/O140 (io), AE18 I/O143 (io), AE19 I/O160 (io), AE20 I/O162 (io), AE21 I/O165 (io), AE22 I/O144 (io), AE23 I/O147 (io), AE24 I/O148 (io), AF14 I/O132 (io), AF15 I/O135 (io), AF16 I/O138 (io), AF17 I/O141 (io), AF18 I/O156 (io), AF19 I/O158 (io), AF21 I/O164 (io), AF22 I/O167 (io), AF23 I/O145 (io), AF24 I/O149 (io), B15 I/O261 (io), B16 I/O258 (io), B17 I/O255 (io), B18 I/O252 (io), B19 I/O234 (io), B20 I/O231 (io), B21 I/O228 (io), B22 I/O249 (io), B23 I/O246 (io), B24 I/O245 (io), B25 I/O240 (io), C14 I/O262 (io), C15 I/O259 (io), C16 I/O256 (io), C17 I/O253 (io), C18 I/O238 (io), C19 I/O235 (io), C20 I/O233 (io), C21 I/O230 (io), C22 I/O251 (io), C23 I/O247 (io), C24 I/O225 (io), C25 I/O224 (io), C26 I/O227 (io), D20 I/O236 (io), D21 I/O243 (io), D24 I/O226 (io), D25 I/O222 (io), D26 I/O223 (io), E25 I/O221 (io), E26 I/O220 (io), F23 I/O242 (io), F24 I/O219 (io), F25 I/O218 (io), F26 I/O217 (io), G23 I/O241 (io), G24 I/O216 (io), G25 I/O215 (io), G26 I/O214 (io), H24 I/O211 (io), H25 I/O212 (io), H26 I/O213 (io), J24 I/O208 (io), J25 I/O209 (io), J26 I/O210 (io), K24 I/O205 (io), K25 I/O206 (io), K26 I/O207 (io), L24 I/O204 (io), L26 I/O197 (io), M25 I/O203 (io), M26 I/O202 (io), N24 I/O201 (io), N25 I/O200 (io), N26 I/O199 (io), P24 I/O196 (io), P26 I/O198 (io), R24 I/O193 (io), R25 I/O194 (io), R26 I/O195 (io), T24 I/O178 (io), T25 I/O179 (io), T26 I/O192 (io), U24 I/O177 (io), U25 I/O176 (io), U26 I/O175 (io), V24 I/O174 (io), V25 I/O173 (io), V26 I/O172 (io), W24 I/O171 (io), W25 I/O170 (io), W26 I/O169 (io), Y23 I/O153 (io), Y24 I/O190 (io), Y25 I/O191 (io), Y26 I/O168 (io)
part C pins: A1 GND (power), A2 GND (power), A25 GND (power), A26 GND (power), AB4 NC, AB23 NC, AC4 NC, AC5 NC, AC8 VCCO (power), AC9 VCCO (power), AC10 NC, AC11 GND (power), AC12 GND (power), AC13 VCCO (power), AC14 VCCO (power), AC15 GND (power), AC16 GND (power), AC17 NC, AC18 VCCO (power), AC19 VCCO (power), AC22 NC, AC23 NC, AD13 IN2 (in), AE1 GND (power), AE2 NC, AE13 VCC (power), AE25 NC, AE26 GND (power), AF1 GND (power), AF2 GND (power), AF7 TMS (in), AF20 TDO (out), AF25 GND (power), AF26 GND (power), B1 GND (power), B2 NC, B14 VCC (power), B26 GND (power), D4 NC, D5 NC, D8 VCCO (power), D9 VCCO (power), D10 NC, D11 GND (power), D12 GND (power), D13 VCCO (power), D14 VCCO (power), D15 GND (power), D16 GND (power), D17 NC, D18 VCCO (power), D19 VCCO (power), D22 NC, D23 NC, E2 TCK (in), E4 NC, E23 NC, E24 TDI (in), H4 VCCO (power), H23 VCCO (power), J4 VCCO (power), J23 VCCO (power), K4 NC, K23 NC, L1 IN0 (in), L4 GND (power), L23 GND (power), L25 IN4 (in), M3 IN1 (in), M4 GND (power), M23 GND (power), M24 IN3 (in), N2 VCC (power), N4 VCCO (power), N23 VCCO (power), P4 VCCO (power), P23 VCCO (power), P25 VCC (power), R4 GND (power), R23 GND (power), T4 GND (power), T23 GND (power), U4 NC, U23 NC, V4 VCCO (power), V23 VCCO (power), W4 VCCO (power), W23 VCCO (power)
part A text: Block AA; Block AO; Block AN; Block AM; Block AB; Block AL; Block AC; Block AK; Block AE; Block AG; Block AI
part B text: Block BA; Block BO; Block BN; Block BM; Block BB; Block BK; Block BC; Block BI; Block BD; Block BE; Block BG

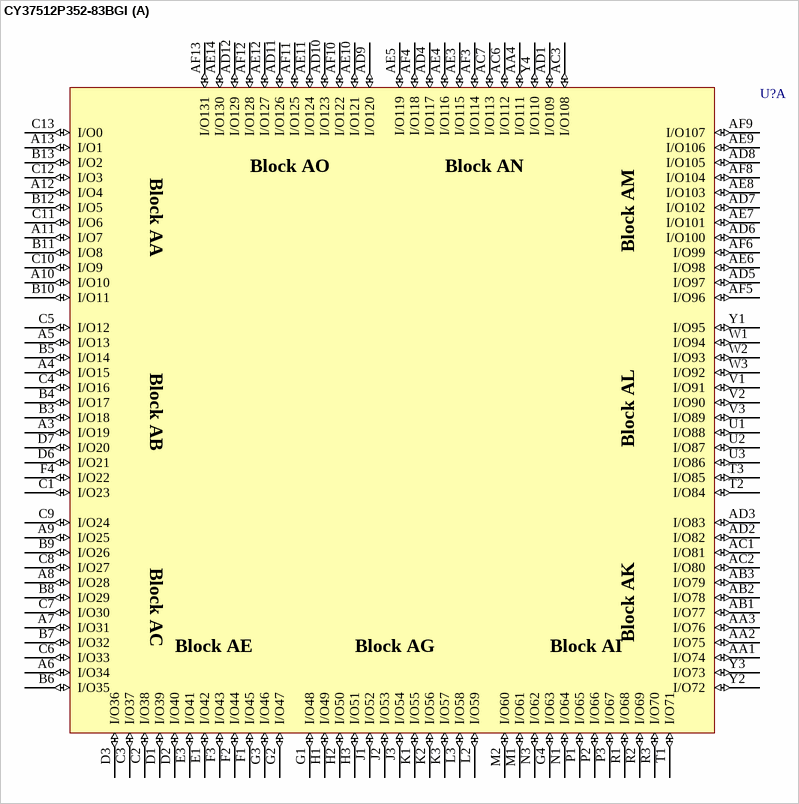
[diagram p66: symbol CY37512P352-83BGI]

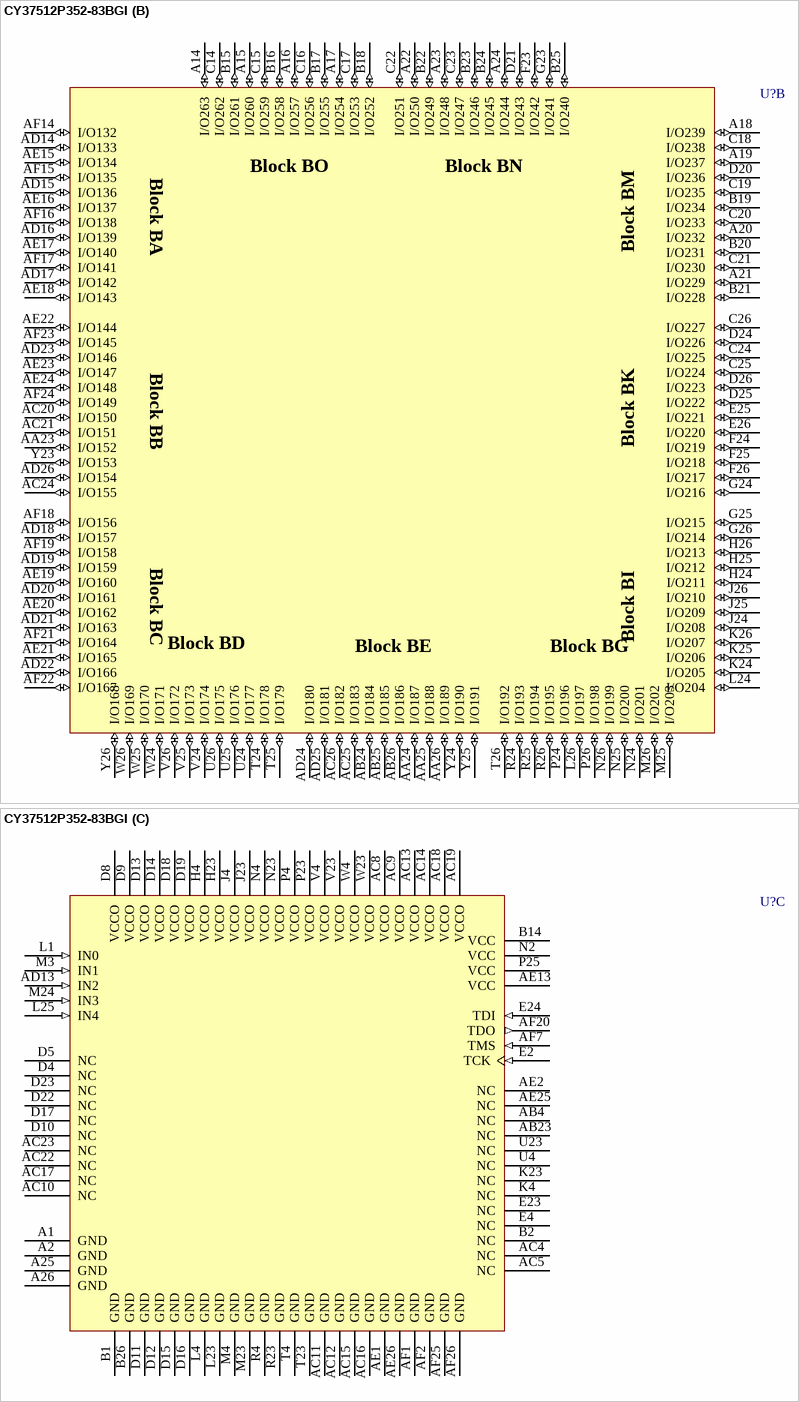
[diagram p67: symbol CY37512P352-83BGI]

## CY37512P352-83BGI
designator U?
Ultra37000 5V, ISR High-Performance CPLD; Published: 11-Dec-2002; LatestRevisionDate: 13-Apr-2006; LatestRevisionNote: IPC-7351 Footprint Added.; DatasheetVersion: 18-Apr-2001; PackageVersion: Mar-2001; PackageReference: BG352; Publisher: Altium Limited; PackageDescription: 388-Ball Ball Grid Array 1.27 mm Pitch; ComponentLink1Description: Manufacturer Link; ComponentLink1URL: http://www.cypress.com/; ComponentLink2Description: Datasheet; ComponentLink2URL: http://www.cypress.com/portal/server.pt/gateway/PTARGS_0_2_1524_209_259_43/http%3B/sjapp20.mis.cypress.com%3B7001/publishedcontent/publish/design_resources/datasheets/contents/cy37032p_5.pdf
footprint BG352 (BGA, 388-Leads, Body 35x35mm, Pitch 1.27mm)
3D model CY37512P352-BG352 (388-Ball Ball Grid Array 1.27 mm Pitch)
part A pins: A3 I/O19 (io), A4 I/O15 (io), A5 I/O13 (io), A6 I/O34 (io), A7 I/O31 (io), A8 I/O28 (io), A9 I/O25 (io), A10 I/O10 (io), A11 I/O7 (io), A12 I/O4 (io), A13 I/O1 (io), AA1 I/O74 (io), AA2 I/O75 (io), AA3 I/O76 (io), AA4 I/O111 (io), AB1 I/O77 (io), AB2 I/O78 (io), AB3 I/O79 (io), AC1 I/O81 (io), AC2 I/O80 (io), AC3 I/O108 (io), AC6 I/O112 (io), AC7 I/O113 (io), AD1 I/O109 (io), AD2 I/O82 (io), AD3 I/O83 (io), AD4 I/O117 (io), AD5 I/O97 (io), AD6 I/O100 (io), AD7 I/O102 (io), AD8 I/O105 (io), AD9 I/O120 (io), AD10 I/O123 (io), AD11 I/O126 (io), AD12 I/O129 (io), AE3 I/O115 (io), AE4 I/O116 (io), AE5 I/O119 (io), AE6 I/O98 (io), AE7 I/O101 (io), AE8 I/O103 (io), AE9 I/O106 (io), AE10 I/O121 (io), AE11 I/O124 (io), AE12 I/O127 (io), AE14 I/O130 (io), AF3 I/O114 (io), AF4 I/O118 (io), AF5 I/O96 (io), AF6 I/O99 (io), AF8 I/O104 (io), AF9 I/O107 (io), AF10 I/O122 (io), AF11 I/O125 (io), AF12 I/O128 (io), AF13 I/O131 (io), B3 I/O18 (io), B4 I/O17 (io), B5 I/O14 (io), B6 I/O35 (io), B7 I/O32 (io), B8 I/O29 (io), B9 I/O26 (io), B10 I/O11 (io), B11 I/O8 (io), B12 I/O5 (io), B13 I/O2 (io), C1 I/O23 (io), C2 I/O38 (io), C3 I/O37 (io), C4 I/O16 (io), C5 I/O12 (io), C6 I/O33 (io), C7 I/O30 (io), C8 I/O27 (io), C9 I/O24 (io), C10 I/O9 (io), C11 I/O6 (io), C12 I/O3 (io), C13 I/O0 (io), D1 I/O39 (io), D2 I/O40 (io), D3 I/O36 (io), D6 I/O21 (io), D7 I/O20 (io), E1 I/O42 (io), E3 I/O41 (io), F1 I/O45 (io), F2 I/O44 (io), F3 I/O43 (io), F4 I/O22 (io), G1 I/O48 (io), G2 I/O47 (io), G3 I/O46 (io), G4 I/O63 (io), H1 I/O49 (io), H2 I/O50 (io), H3 I/O51 (io), J1 I/O52 (io), J2 I/O53 (io), J3 I/O54 (io), K1 I/O55 (io), K2 I/O56 (io), K3 I/O57 (io), L2 I/O59 (io), L3 I/O58 (io), M1 I/O61 (io), M2 I/O60 (io), N1 I/O64 (io), N3 I/O62 (io), P1 I/O65 (io), P2 I/O66 (io), P3 I/O67 (io), R1 I/O68 (io), R2 I/O69 (io), R3 I/O70 (io), T1 I/O71 (io), T2 I/O84 (io), T3 I/O85 (io), U1 I/O88 (io), U2 I/O87 (io), U3 I/O86 (io), V1 I/O91 (io), V2 I/O90 (io), V3 I/O89 (io), W1 I/O94 (io), W2 I/O93 (io), W3 I/O92 (io), Y1 I/O95 (io), Y2 I/O72 (io), Y3 I/O73 (io), Y4 I/O110 (io)
part B pins: A14 I/O263 (io), A15 I/O260 (io), A16 I/O257 (io), A17 I/O254 (io), A18 I/O239 (io), A19 I/O237 (io), A20 I/O232 (io), A21 I/O229 (io), A22 I/O250 (io), A23 I/O248 (io), A24 I/O244 (io), AA23 I/O152 (io), AA24 I/O187 (io), AA25 I/O188 (io), AA26 I/O189 (io), AB24 I/O184 (io), AB25 I/O185 (io), AB26 I/O186 (io), AC20 I/O150 (io), AC21 I/O151 (io), AC24 I/O155 (io), AC25 I/O183 (io), AC26 I/O182 (io), AD14 I/O133 (io), AD15 I/O136 (io), AD16 I/O139 (io), AD17 I/O142 (io), AD18 I/O157 (io), AD19 I/O159 (io), AD20 I/O161 (io), AD21 I/O163 (io), AD22 I/O166 (io), AD23 I/O146 (io), AD24 I/O180 (io), AD25 I/O181 (io), AD26 I/O154 (io), AE15 I/O134 (io), AE16 I/O137 (io), AE17 I/O140 (io), AE18 I/O143 (io), AE19 I/O160 (io), AE20 I/O162 (io), AE21 I/O165 (io), AE22 I/O144 (io), AE23 I/O147 (io), AE24 I/O148 (io), AF14 I/O132 (io), AF15 I/O135 (io), AF16 I/O138 (io), AF17 I/O141 (io), AF18 I/O156 (io), AF19 I/O158 (io), AF21 I/O164 (io), AF22 I/O167 (io), AF23 I/O145 (io), AF24 I/O149 (io), B15 I/O261 (io), B16 I/O258 (io), B17 I/O255 (io), B18 I/O252 (io), B19 I/O234 (io), B20 I/O231 (io), B21 I/O228 (io), B22 I/O249 (io), B23 I/O246 (io), B24 I/O245 (io), B25 I/O240 (io), C14 I/O262 (io), C15 I/O259 (io), C16 I/O256 (io), C17 I/O253 (io), C18 I/O238 (io), C19 I/O235 (io), C20 I/O233 (io), C21 I/O230 (io), C22 I/O251 (io), C23 I/O247 (io), C24 I/O225 (io), C25 I/O224 (io), C26 I/O227 (io), D20 I/O236 (io), D21 I/O243 (io), D24 I/O226 (io), D25 I/O222 (io), D26 I/O223 (io), E25 I/O221 (io), E26 I/O220 (io), F23 I/O242 (io), F24 I/O219 (io), F25 I/O218 (io), F26 I/O217 (io), G23 I/O241 (io), G24 I/O216 (io), G25 I/O215 (io), G26 I/O214 (io), H24 I/O211 (io), H25 I/O212 (io), H26 I/O213 (io), J24 I/O208 (io), J25 I/O209 (io), J26 I/O210 (io), K24 I/O205 (io), K25 I/O206 (io), K26 I/O207 (io), L24 I/O204 (io), L26 I/O197 (io), M25 I/O203 (io), M26 I/O202 (io), N24 I/O201 (io), N25 I/O200 (io), N26 I/O199 (io), P24 I/O196 (io), P26 I/O198 (io), R24 I/O193 (io), R25 I/O194 (io), R26 I/O195 (io), T24 I/O178 (io), T25 I/O179 (io), T26 I/O192 (io), U24 I/O177 (io), U25 I/O176 (io), U26 I/O175 (io), V24 I/O174 (io), V25 I/O173 (io), V26 I/O172 (io), W24 I/O171 (io), W25 I/O170 (io), W26 I/O169 (io), Y23 I/O153 (io), Y24 I/O190 (io), Y25 I/O191 (io), Y26 I/O168 (io)
part C pins: A1 GND (power), A2 GND (power), A25 GND (power), A26 GND (power), AB4 NC, AB23 NC, AC4 NC, AC5 NC, AC8 VCCO (power), AC9 VCCO (power), AC10 NC, AC11 GND (power), AC12 GND (power), AC13 VCCO (power), AC14 VCCO (power), AC15 GND (power), AC16 GND (power), AC17 NC, AC18 VCCO (power), AC19 VCCO (power), AC22 NC, AC23 NC, AD13 IN2 (in), AE1 GND (power), AE2 NC, AE13 VCC (power), AE25 NC, AE26 GND (power), AF1 GND (power), AF2 GND (power), AF7 TMS (in), AF20 TDO (out), AF25 GND (power), AF26 GND (power), B1 GND (power), B2 NC, B14 VCC (power), B26 GND (power), D4 NC, D5 NC, D8 VCCO (power), D9 VCCO (power), D10 NC, D11 GND (power), D12 GND (power), D13 VCCO (power), D14 VCCO (power), D15 GND (power), D16 GND (power), D17 NC, D18 VCCO (power), D19 VCCO (power), D22 NC, D23 NC, E2 TCK (in), E4 NC, E23 NC, E24 TDI (in), H4 VCCO (power), H23 VCCO (power), J4 VCCO (power), J23 VCCO (power), K4 NC, K23 NC, L1 IN0 (in), L4 GND (power), L23 GND (power), L25 IN4 (in), M3 IN1 (in), M4 GND (power), M23 GND (power), M24 IN3 (in), N2 VCC (power), N4 VCCO (power), N23 VCCO (power), P4 VCCO (power), P23 VCCO (power), P25 VCC (power), R4 GND (power), R23 GND (power), T4 GND (power), T23 GND (power), U4 NC, U23 NC, V4 VCCO (power), V23 VCCO (power), W4 VCCO (power), W23 VCCO (power)
part A text: Block AA; Block AO; Block AN; Block AM; Block AB; Block AL; Block AC; Block AK; Block AE; Block AG; Block AI
part B text: Block BA; Block BO; Block BN; Block BM; Block BB; Block BK; Block BC; Block BI; Block BD; Block BE; Block BG

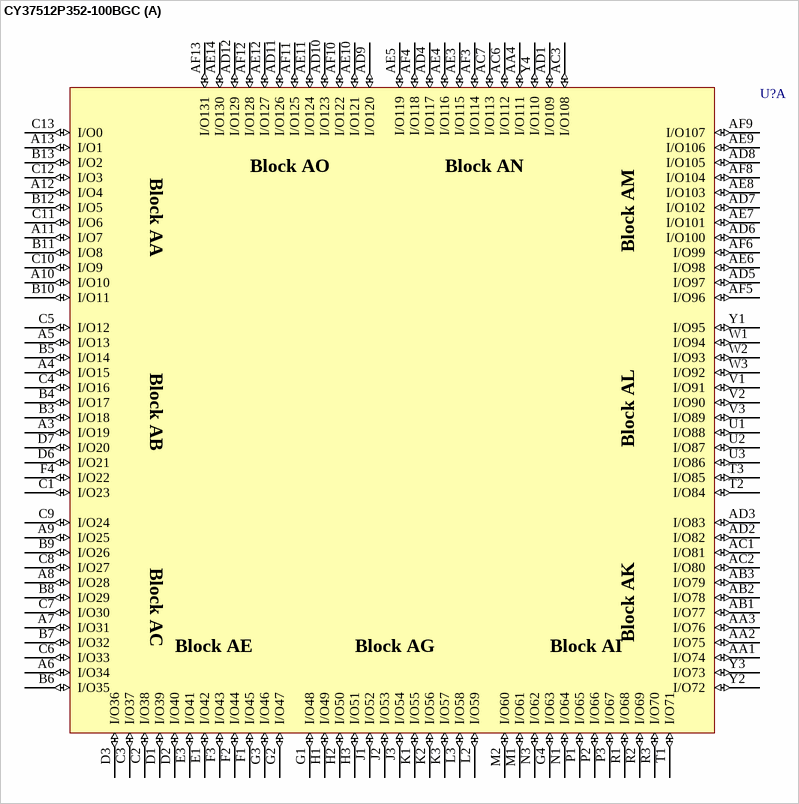
[diagram p68: symbol CY37512P352-100BGC]

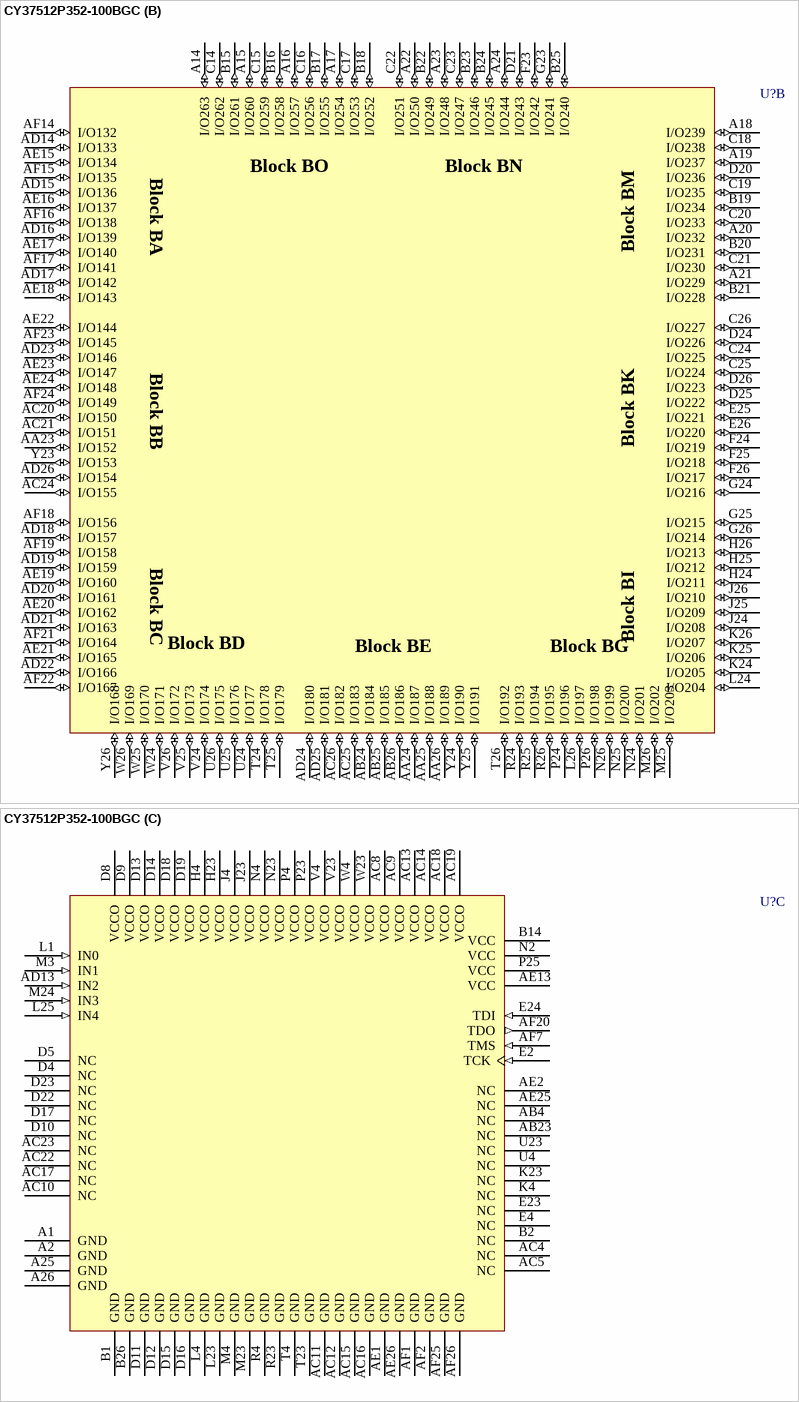
[diagram p69: symbol CY37512P352-100BGC]

## CY37512P352-100BGC
designator U?
Ultra37000 5V, ISR High-Performance CPLD; Published: 11-Dec-2002; LatestRevisionDate: 13-Apr-2006; LatestRevisionNote: IPC-7351 Footprint Added.; DatasheetVersion: 18-Apr-2001; PackageVersion: Mar-2001; PackageReference: BG352; Publisher: Altium Limited; PackageDescription: 388-Ball Ball Grid Array 1.27 mm Pitch; ComponentLink1Description: Manufacturer Link; ComponentLink1URL: http://www.cypress.com/; ComponentLink2Description: Datasheet; ComponentLink2URL: http://www.cypress.com/portal/server.pt/gateway/PTARGS_0_2_1524_209_259_43/http%3B/sjapp20.mis.cypress.com%3B7001/publishedcontent/publish/design_resources/datasheets/contents/cy37032p_5.pdf
footprint BG352 (BGA, 388-Leads, Body 35x35mm, Pitch 1.27mm)
3D model CY37512P352-BG352 (388-Ball Ball Grid Array 1.27 mm Pitch)
part A pins: A3 I/O19 (io), A4 I/O15 (io), A5 I/O13 (io), A6 I/O34 (io), A7 I/O31 (io), A8 I/O28 (io), A9 I/O25 (io), A10 I/O10 (io), A11 I/O7 (io), A12 I/O4 (io), A13 I/O1 (io), AA1 I/O74 (io), AA2 I/O75 (io), AA3 I/O76 (io), AA4 I/O111 (io), AB1 I/O77 (io), AB2 I/O78 (io), AB3 I/O79 (io), AC1 I/O81 (io), AC2 I/O80 (io), AC3 I/O108 (io), AC6 I/O112 (io), AC7 I/O113 (io), AD1 I/O109 (io), AD2 I/O82 (io), AD3 I/O83 (io), AD4 I/O117 (io), AD5 I/O97 (io), AD6 I/O100 (io), AD7 I/O102 (io), AD8 I/O105 (io), AD9 I/O120 (io), AD10 I/O123 (io), AD11 I/O126 (io), AD12 I/O129 (io), AE3 I/O115 (io), AE4 I/O116 (io), AE5 I/O119 (io), AE6 I/O98 (io), AE7 I/O101 (io), AE8 I/O103 (io), AE9 I/O106 (io), AE10 I/O121 (io), AE11 I/O124 (io), AE12 I/O127 (io), AE14 I/O130 (io), AF3 I/O114 (io), AF4 I/O118 (io), AF5 I/O96 (io), AF6 I/O99 (io), AF8 I/O104 (io), AF9 I/O107 (io), AF10 I/O122 (io), AF11 I/O125 (io), AF12 I/O128 (io), AF13 I/O131 (io), B3 I/O18 (io), B4 I/O17 (io), B5 I/O14 (io), B6 I/O35 (io), B7 I/O32 (io), B8 I/O29 (io), B9 I/O26 (io), B10 I/O11 (io), B11 I/O8 (io), B12 I/O5 (io), B13 I/O2 (io), C1 I/O23 (io), C2 I/O38 (io), C3 I/O37 (io), C4 I/O16 (io), C5 I/O12 (io), C6 I/O33 (io), C7 I/O30 (io), C8 I/O27 (io), C9 I/O24 (io), C10 I/O9 (io), C11 I/O6 (io), C12 I/O3 (io), C13 I/O0 (io), D1 I/O39 (io), D2 I/O40 (io), D3 I/O36 (io), D6 I/O21 (io), D7 I/O20 (io), E1 I/O42 (io), E3 I/O41 (io), F1 I/O45 (io), F2 I/O44 (io), F3 I/O43 (io), F4 I/O22 (io), G1 I/O48 (io), G2 I/O47 (io), G3 I/O46 (io), G4 I/O63 (io), H1 I/O49 (io), H2 I/O50 (io), H3 I/O51 (io), J1 I/O52 (io), J2 I/O53 (io), J3 I/O54 (io), K1 I/O55 (io), K2 I/O56 (io), K3 I/O57 (io), L2 I/O59 (io), L3 I/O58 (io), M1 I/O61 (io), M2 I/O60 (io), N1 I/O64 (io), N3 I/O62 (io), P1 I/O65 (io), P2 I/O66 (io), P3 I/O67 (io), R1 I/O68 (io), R2 I/O69 (io), R3 I/O70 (io), T1 I/O71 (io), T2 I/O84 (io), T3 I/O85 (io), U1 I/O88 (io), U2 I/O87 (io), U3 I/O86 (io), V1 I/O91 (io), V2 I/O90 (io), V3 I/O89 (io), W1 I/O94 (io), W2 I/O93 (io), W3 I/O92 (io), Y1 I/O95 (io), Y2 I/O72 (io), Y3 I/O73 (io), Y4 I/O110 (io)
part B pins: A14 I/O263 (io), A15 I/O260 (io), A16 I/O257 (io), A17 I/O254 (io), A18 I/O239 (io), A19 I/O237 (io), A20 I/O232 (io), A21 I/O229 (io), A22 I/O250 (io), A23 I/O248 (io), A24 I/O244 (io), AA23 I/O152 (io), AA24 I/O187 (io), AA25 I/O188 (io), AA26 I/O189 (io), AB24 I/O184 (io), AB25 I/O185 (io), AB26 I/O186 (io), AC20 I/O150 (io), AC21 I/O151 (io), AC24 I/O155 (io), AC25 I/O183 (io), AC26 I/O182 (io), AD14 I/O133 (io), AD15 I/O136 (io), AD16 I/O139 (io), AD17 I/O142 (io), AD18 I/O157 (io), AD19 I/O159 (io), AD20 I/O161 (io), AD21 I/O163 (io), AD22 I/O166 (io), AD23 I/O146 (io), AD24 I/O180 (io), AD25 I/O181 (io), AD26 I/O154 (io), AE15 I/O134 (io), AE16 I/O137 (io), AE17 I/O140 (io), AE18 I/O143 (io), AE19 I/O160 (io), AE20 I/O162 (io), AE21 I/O165 (io), AE22 I/O144 (io), AE23 I/O147 (io), AE24 I/O148 (io), AF14 I/O132 (io), AF15 I/O135 (io), AF16 I/O138 (io), AF17 I/O141 (io), AF18 I/O156 (io), AF19 I/O158 (io), AF21 I/O164 (io), AF22 I/O167 (io), AF23 I/O145 (io), AF24 I/O149 (io), B15 I/O261 (io), B16 I/O258 (io), B17 I/O255 (io), B18 I/O252 (io), B19 I/O234 (io), B20 I/O231 (io), B21 I/O228 (io), B22 I/O249 (io), B23 I/O246 (io), B24 I/O245 (io), B25 I/O240 (io), C14 I/O262 (io), C15 I/O259 (io), C16 I/O256 (io), C17 I/O253 (io), C18 I/O238 (io), C19 I/O235 (io), C20 I/O233 (io), C21 I/O230 (io), C22 I/O251 (io), C23 I/O247 (io), C24 I/O225 (io), C25 I/O224 (io), C26 I/O227 (io), D20 I/O236 (io), D21 I/O243 (io), D24 I/O226 (io), D25 I/O222 (io), D26 I/O223 (io), E25 I/O221 (io), E26 I/O220 (io), F23 I/O242 (io), F24 I/O219 (io), F25 I/O218 (io), F26 I/O217 (io), G23 I/O241 (io), G24 I/O216 (io), G25 I/O215 (io), G26 I/O214 (io), H24 I/O211 (io), H25 I/O212 (io), H26 I/O213 (io), J24 I/O208 (io), J25 I/O209 (io), J26 I/O210 (io), K24 I/O205 (io), K25 I/O206 (io), K26 I/O207 (io), L24 I/O204 (io), L26 I/O197 (io), M25 I/O203 (io), M26 I/O202 (io), N24 I/O201 (io), N25 I/O200 (io), N26 I/O199 (io), P24 I/O196 (io), P26 I/O198 (io), R24 I/O193 (io), R25 I/O194 (io), R26 I/O195 (io), T24 I/O178 (io), T25 I/O179 (io), T26 I/O192 (io), U24 I/O177 (io), U25 I/O176 (io), U26 I/O175 (io), V24 I/O174 (io), V25 I/O173 (io), V26 I/O172 (io), W24 I/O171 (io), W25 I/O170 (io), W26 I/O169 (io), Y23 I/O153 (io), Y24 I/O190 (io), Y25 I/O191 (io), Y26 I/O168 (io)
part C pins: A1 GND (power), A2 GND (power), A25 GND (power), A26 GND (power), AB4 NC, AB23 NC, AC4 NC, AC5 NC, AC8 VCCO (power), AC9 VCCO (power), AC10 NC, AC11 GND (power), AC12 GND (power), AC13 VCCO (power), AC14 VCCO (power), AC15 GND (power), AC16 GND (power), AC17 NC, AC18 VCCO (power), AC19 VCCO (power), AC22 NC, AC23 NC, AD13 IN2 (in), AE1 GND (power), AE2 NC, AE13 VCC (power), AE25 NC, AE26 GND (power), AF1 GND (power), AF2 GND (power), AF7 TMS (in), AF20 TDO (out), AF25 GND (power), AF26 GND (power), B1 GND (power), B2 NC, B14 VCC (power), B26 GND (power), D4 NC, D5 NC, D8 VCCO (power), D9 VCCO (power), D10 NC, D11 GND (power), D12 GND (power), D13 VCCO (power), D14 VCCO (power), D15 GND (power), D16 GND (power), D17 NC, D18 VCCO (power), D19 VCCO (power), D22 NC, D23 NC, E2 TCK (in), E4 NC, E23 NC, E24 TDI (in), H4 VCCO (power), H23 VCCO (power), J4 VCCO (power), J23 VCCO (power), K4 NC, K23 NC, L1 IN0 (in), L4 GND (power), L23 GND (power), L25 IN4 (in), M3 IN1 (in), M4 GND (power), M23 GND (power), M24 IN3 (in), N2 VCC (power), N4 VCCO (power), N23 VCCO (power), P4 VCCO (power), P23 VCCO (power), P25 VCC (power), R4 GND (power), R23 GND (power), T4 GND (power), T23 GND (power), U4 NC, U23 NC, V4 VCCO (power), V23 VCCO (power), W4 VCCO (power), W23 VCCO (power)
part A text: Block AA; Block AO; Block AN; Block AM; Block AB; Block AL; Block AC; Block AK; Block AE; Block AG; Block AI
part B text: Block BA; Block BO; Block BN; Block BM; Block BB; Block BK; Block BC; Block BI; Block BD; Block BE; Block BG

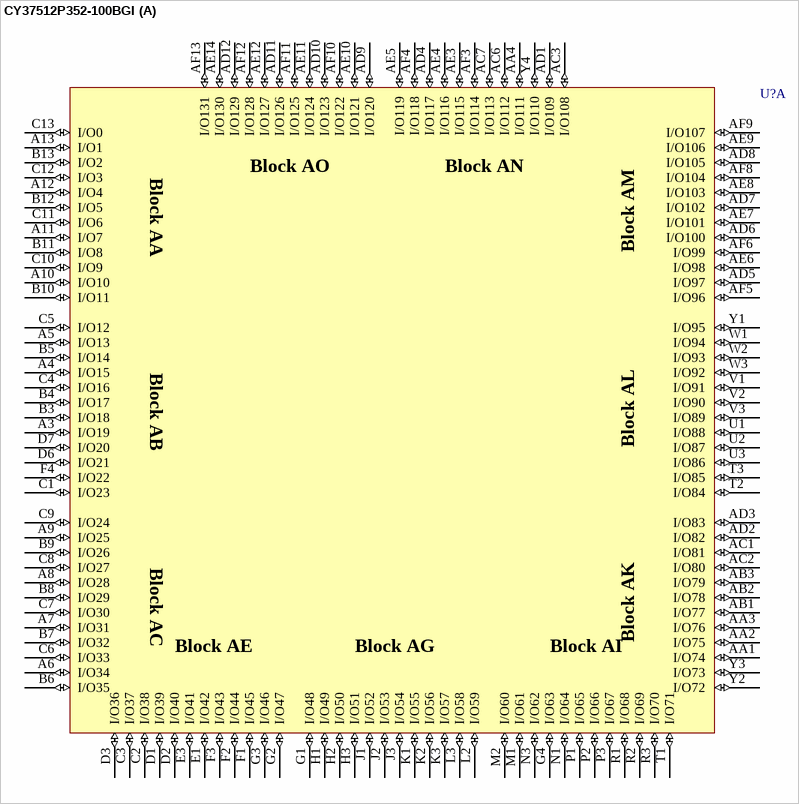
[diagram p70: symbol CY37512P352-100BGI]

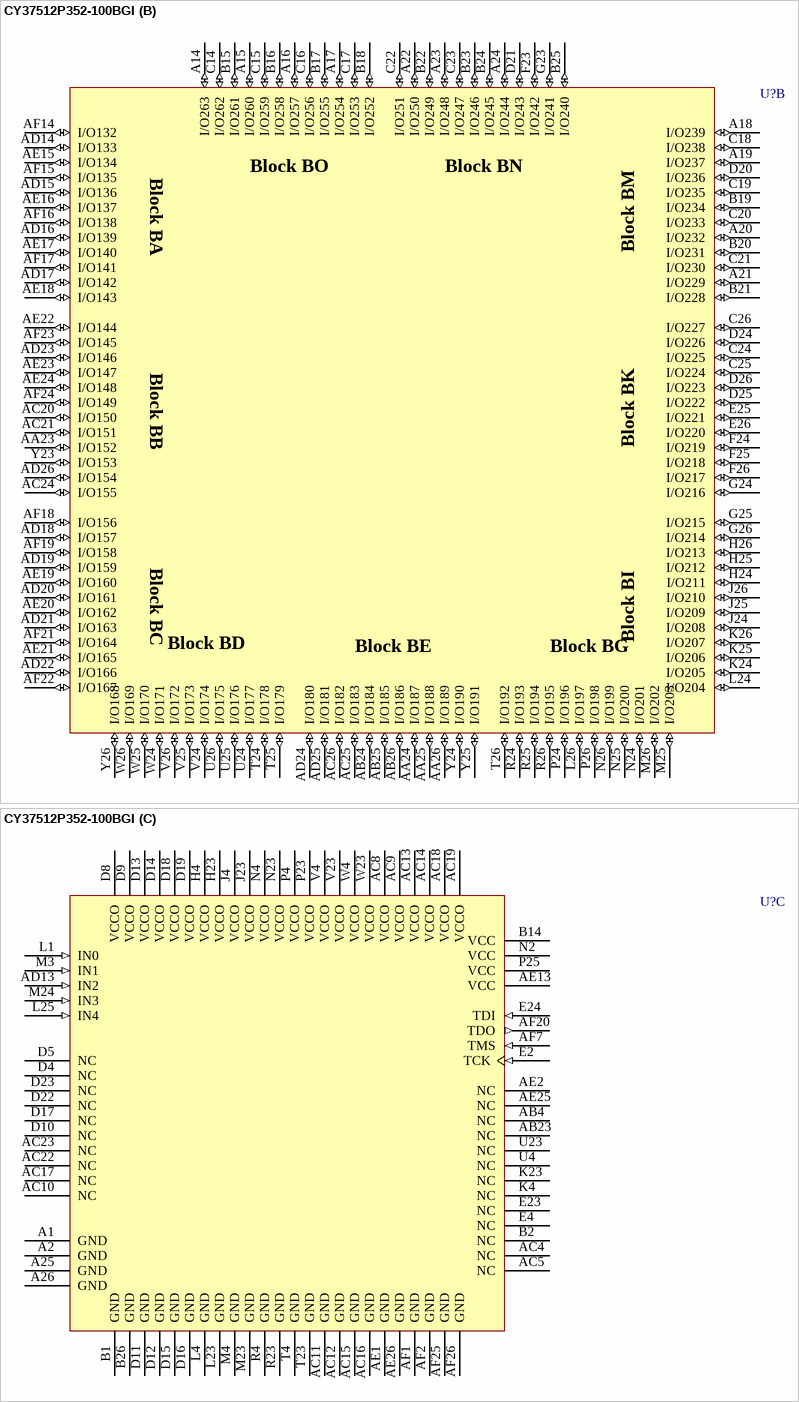
[diagram p71: symbol CY37512P352-100BGI]

## CY37512P352-100BGI
designator U?
Ultra37000 5V, ISR High-Performance CPLD; Published: 11-Dec-2002; LatestRevisionDate: 13-Apr-2006; LatestRevisionNote: IPC-7351 Footprint Added.; DatasheetVersion: 18-Apr-2001; PackageVersion: Mar-2001; PackageReference: BG352; Publisher: Altium Limited; PackageDescription: 388-Ball Ball Grid Array 1.27 mm Pitch; ComponentLink1Description: Manufacturer Link; ComponentLink1URL: http://www.cypress.com/; ComponentLink2Description: Datasheet; ComponentLink2URL: http://www.cypress.com/portal/server.pt/gateway/PTARGS_0_2_1524_209_259_43/http%3B/sjapp20.mis.cypress.com%3B7001/publishedcontent/publish/design_resources/datasheets/contents/cy37032p_5.pdf
footprint BG352 (BGA, 388-Leads, Body 35x35mm, Pitch 1.27mm)
3D model CY37512P352-BG352 (388-Ball Ball Grid Array 1.27 mm Pitch)
part A pins: A3 I/O19 (io), A4 I/O15 (io), A5 I/O13 (io), A6 I/O34 (io), A7 I/O31 (io), A8 I/O28 (io), A9 I/O25 (io), A10 I/O10 (io), A11 I/O7 (io), A12 I/O4 (io), A13 I/O1 (io), AA1 I/O74 (io), AA2 I/O75 (io), AA3 I/O76 (io), AA4 I/O111 (io), AB1 I/O77 (io), AB2 I/O78 (io), AB3 I/O79 (io), AC1 I/O81 (io), AC2 I/O80 (io), AC3 I/O108 (io), AC6 I/O112 (io), AC7 I/O113 (io), AD1 I/O109 (io), AD2 I/O82 (io), AD3 I/O83 (io), AD4 I/O117 (io), AD5 I/O97 (io), AD6 I/O100 (io), AD7 I/O102 (io), AD8 I/O105 (io), AD9 I/O120 (io), AD10 I/O123 (io), AD11 I/O126 (io), AD12 I/O129 (io), AE3 I/O115 (io), AE4 I/O116 (io), AE5 I/O119 (io), AE6 I/O98 (io), AE7 I/O101 (io), AE8 I/O103 (io), AE9 I/O106 (io), AE10 I/O121 (io), AE11 I/O124 (io), AE12 I/O127 (io), AE14 I/O130 (io), AF3 I/O114 (io), AF4 I/O118 (io), AF5 I/O96 (io), AF6 I/O99 (io), AF8 I/O104 (io), AF9 I/O107 (io), AF10 I/O122 (io), AF11 I/O125 (io), AF12 I/O128 (io), AF13 I/O131 (io), B3 I/O18 (io), B4 I/O17 (io), B5 I/O14 (io), B6 I/O35 (io), B7 I/O32 (io), B8 I/O29 (io), B9 I/O26 (io), B10 I/O11 (io), B11 I/O8 (io), B12 I/O5 (io), B13 I/O2 (io), C1 I/O23 (io), C2 I/O38 (io), C3 I/O37 (io), C4 I/O16 (io), C5 I/O12 (io), C6 I/O33 (io), C7 I/O30 (io), C8 I/O27 (io), C9 I/O24 (io), C10 I/O9 (io), C11 I/O6 (io), C12 I/O3 (io), C13 I/O0 (io), D1 I/O39 (io), D2 I/O40 (io), D3 I/O36 (io), D6 I/O21 (io), D7 I/O20 (io), E1 I/O42 (io), E3 I/O41 (io), F1 I/O45 (io), F2 I/O44 (io), F3 I/O43 (io), F4 I/O22 (io), G1 I/O48 (io), G2 I/O47 (io), G3 I/O46 (io), G4 I/O63 (io), H1 I/O49 (io), H2 I/O50 (io), H3 I/O51 (io), J1 I/O52 (io), J2 I/O53 (io), J3 I/O54 (io), K1 I/O55 (io), K2 I/O56 (io), K3 I/O57 (io), L2 I/O59 (io), L3 I/O58 (io), M1 I/O61 (io), M2 I/O60 (io), N1 I/O64 (io), N3 I/O62 (io), P1 I/O65 (io), P2 I/O66 (io), P3 I/O67 (io), R1 I/O68 (io), R2 I/O69 (io), R3 I/O70 (io), T1 I/O71 (io), T2 I/O84 (io), T3 I/O85 (io), U1 I/O88 (io), U2 I/O87 (io), U3 I/O86 (io), V1 I/O91 (io), V2 I/O90 (io), V3 I/O89 (io), W1 I/O94 (io), W2 I/O93 (io), W3 I/O92 (io), Y1 I/O95 (io), Y2 I/O72 (io), Y3 I/O73 (io), Y4 I/O110 (io)
part B pins: A14 I/O263 (io), A15 I/O260 (io), A16 I/O257 (io), A17 I/O254 (io), A18 I/O239 (io), A19 I/O237 (io), A20 I/O232 (io), A21 I/O229 (io), A22 I/O250 (io), A23 I/O248 (io), A24 I/O244 (io), AA23 I/O152 (io), AA24 I/O187 (io), AA25 I/O188 (io), AA26 I/O189 (io), AB24 I/O184 (io), AB25 I/O185 (io), AB26 I/O186 (io), AC20 I/O150 (io), AC21 I/O151 (io), AC24 I/O155 (io), AC25 I/O183 (io), AC26 I/O182 (io), AD14 I/O133 (io), AD15 I/O136 (io), AD16 I/O139 (io), AD17 I/O142 (io), AD18 I/O157 (io), AD19 I/O159 (io), AD20 I/O161 (io), AD21 I/O163 (io), AD22 I/O166 (io), AD23 I/O146 (io), AD24 I/O180 (io), AD25 I/O181 (io), AD26 I/O154 (io), AE15 I/O134 (io), AE16 I/O137 (io), AE17 I/O140 (io), AE18 I/O143 (io), AE19 I/O160 (io), AE20 I/O162 (io), AE21 I/O165 (io), AE22 I/O144 (io), AE23 I/O147 (io), AE24 I/O148 (io), AF14 I/O132 (io), AF15 I/O135 (io), AF16 I/O138 (io), AF17 I/O141 (io), AF18 I/O156 (io), AF19 I/O158 (io), AF21 I/O164 (io), AF22 I/O167 (io), AF23 I/O145 (io), AF24 I/O149 (io), B15 I/O261 (io), B16 I/O258 (io), B17 I/O255 (io), B18 I/O252 (io), B19 I/O234 (io), B20 I/O231 (io), B21 I/O228 (io), B22 I/O249 (io), B23 I/O246 (io), B24 I/O245 (io), B25 I/O240 (io), C14 I/O262 (io), C15 I/O259 (io), C16 I/O256 (io), C17 I/O253 (io), C18 I/O238 (io), C19 I/O235 (io), C20 I/O233 (io), C21 I/O230 (io), C22 I/O251 (io), C23 I/O247 (io), C24 I/O225 (io), C25 I/O224 (io), C26 I/O227 (io), D20 I/O236 (io), D21 I/O243 (io), D24 I/O226 (io), D25 I/O222 (io), D26 I/O223 (io), E25 I/O221 (io), E26 I/O220 (io), F23 I/O242 (io), F24 I/O219 (io), F25 I/O218 (io), F26 I/O217 (io), G23 I/O241 (io), G24 I/O216 (io), G25 I/O215 (io), G26 I/O214 (io), H24 I/O211 (io), H25 I/O212 (io), H26 I/O213 (io), J24 I/O208 (io), J25 I/O209 (io), J26 I/O210 (io), K24 I/O205 (io), K25 I/O206 (io), K26 I/O207 (io), L24 I/O204 (io), L26 I/O197 (io), M25 I/O203 (io), M26 I/O202 (io), N24 I/O201 (io), N25 I/O200 (io), N26 I/O199 (io), P24 I/O196 (io), P26 I/O198 (io), R24 I/O193 (io), R25 I/O194 (io), R26 I/O195 (io), T24 I/O178 (io), T25 I/O179 (io), T26 I/O192 (io), U24 I/O177 (io), U25 I/O176 (io), U26 I/O175 (io), V24 I/O174 (io), V25 I/O173 (io), V26 I/O172 (io), W24 I/O171 (io), W25 I/O170 (io), W26 I/O169 (io), Y23 I/O153 (io), Y24 I/O190 (io), Y25 I/O191 (io), Y26 I/O168 (io)
part C pins: A1 GND (power), A2 GND (power), A25 GND (power), A26 GND (power), AB4 NC, AB23 NC, AC4 NC, AC5 NC, AC8 VCCO (power), AC9 VCCO (power), AC10 NC, AC11 GND (power), AC12 GND (power), AC13 VCCO (power), AC14 VCCO (power), AC15 GND (power), AC16 GND (power), AC17 NC, AC18 VCCO (power), AC19 VCCO (power), AC22 NC, AC23 NC, AD13 IN2 (in), AE1 GND (power), AE2 NC, AE13 VCC (power), AE25 NC, AE26 GND (power), AF1 GND (power), AF2 GND (power), AF7 TMS (in), AF20 TDO (out), AF25 GND (power), AF26 GND (power), B1 GND (power), B2 NC, B14 VCC (power), B26 GND (power), D4 NC, D5 NC, D8 VCCO (power), D9 VCCO (power), D10 NC, D11 GND (power), D12 GND (power), D13 VCCO (power), D14 VCCO (power), D15 GND (power), D16 GND (power), D17 NC, D18 VCCO (power), D19 VCCO (power), D22 NC, D23 NC, E2 TCK (in), E4 NC, E23 NC, E24 TDI (in), H4 VCCO (power), H23 VCCO (power), J4 VCCO (power), J23 VCCO (power), K4 NC, K23 NC, L1 IN0 (in), L4 GND (power), L23 GND (power), L25 IN4 (in), M3 IN1 (in), M4 GND (power), M23 GND (power), M24 IN3 (in), N2 VCC (power), N4 VCCO (power), N23 VCCO (power), P4 VCCO (power), P23 VCCO (power), P25 VCC (power), R4 GND (power), R23 GND (power), T4 GND (power), T23 GND (power), U4 NC, U23 NC, V4 VCCO (power), V23 VCCO (power), W4 VCCO (power), W23 VCCO (power)
part A text: Block AA; Block AO; Block AN; Block AM; Block AB; Block AL; Block AC; Block AK; Block AE; Block AG; Block AI
part B text: Block BA; Block BO; Block BN; Block BM; Block BB; Block BK; Block BC; Block BI; Block BD; Block BE; Block BG

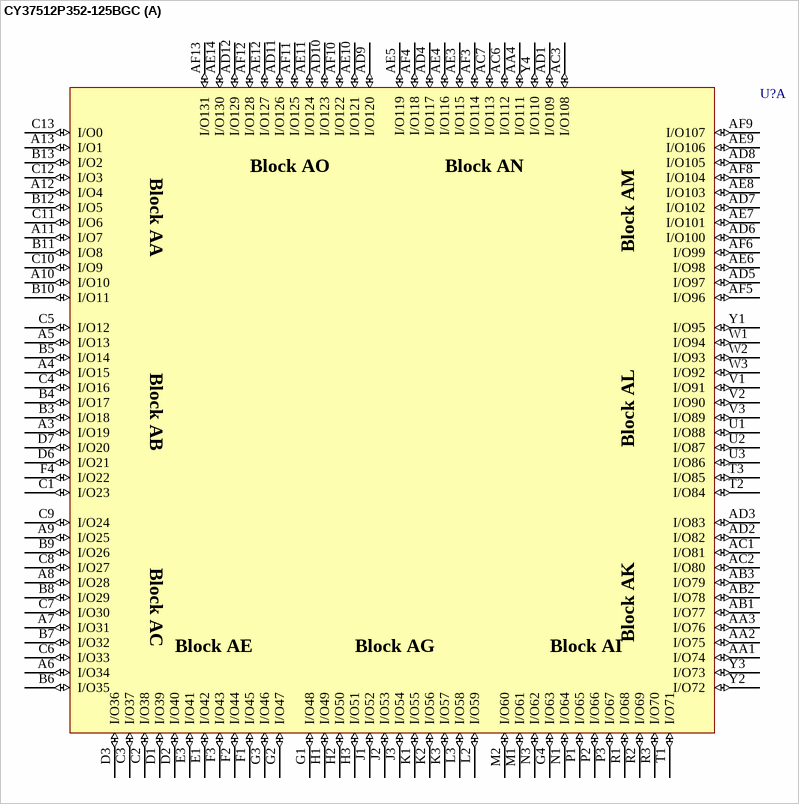
[diagram p72: symbol CY37512P352-125BGC]

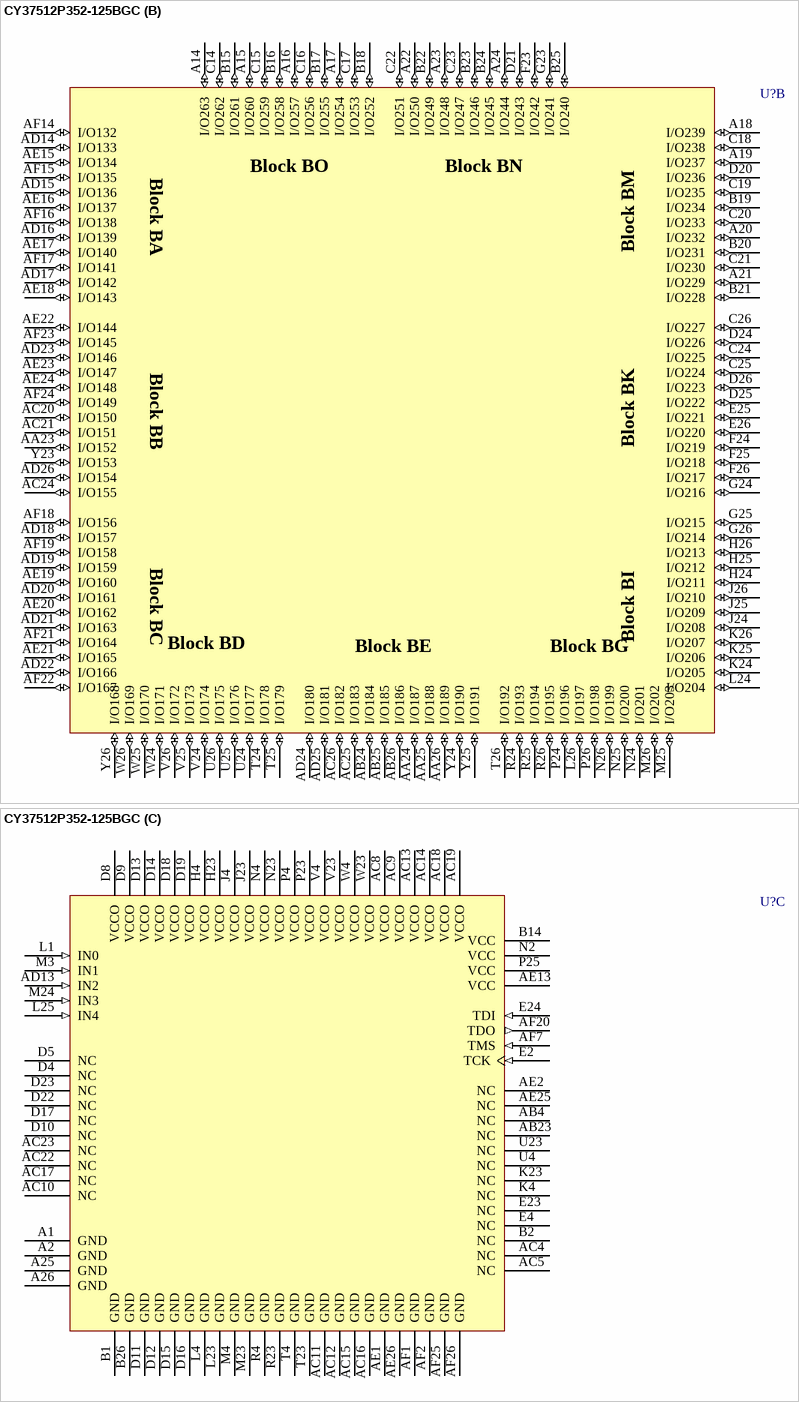
[diagram p73: symbol CY37512P352-125BGC]